# Altium integrated library Lattice FPGA XP2.IntLib: 160 symbols (part 26 of 34)
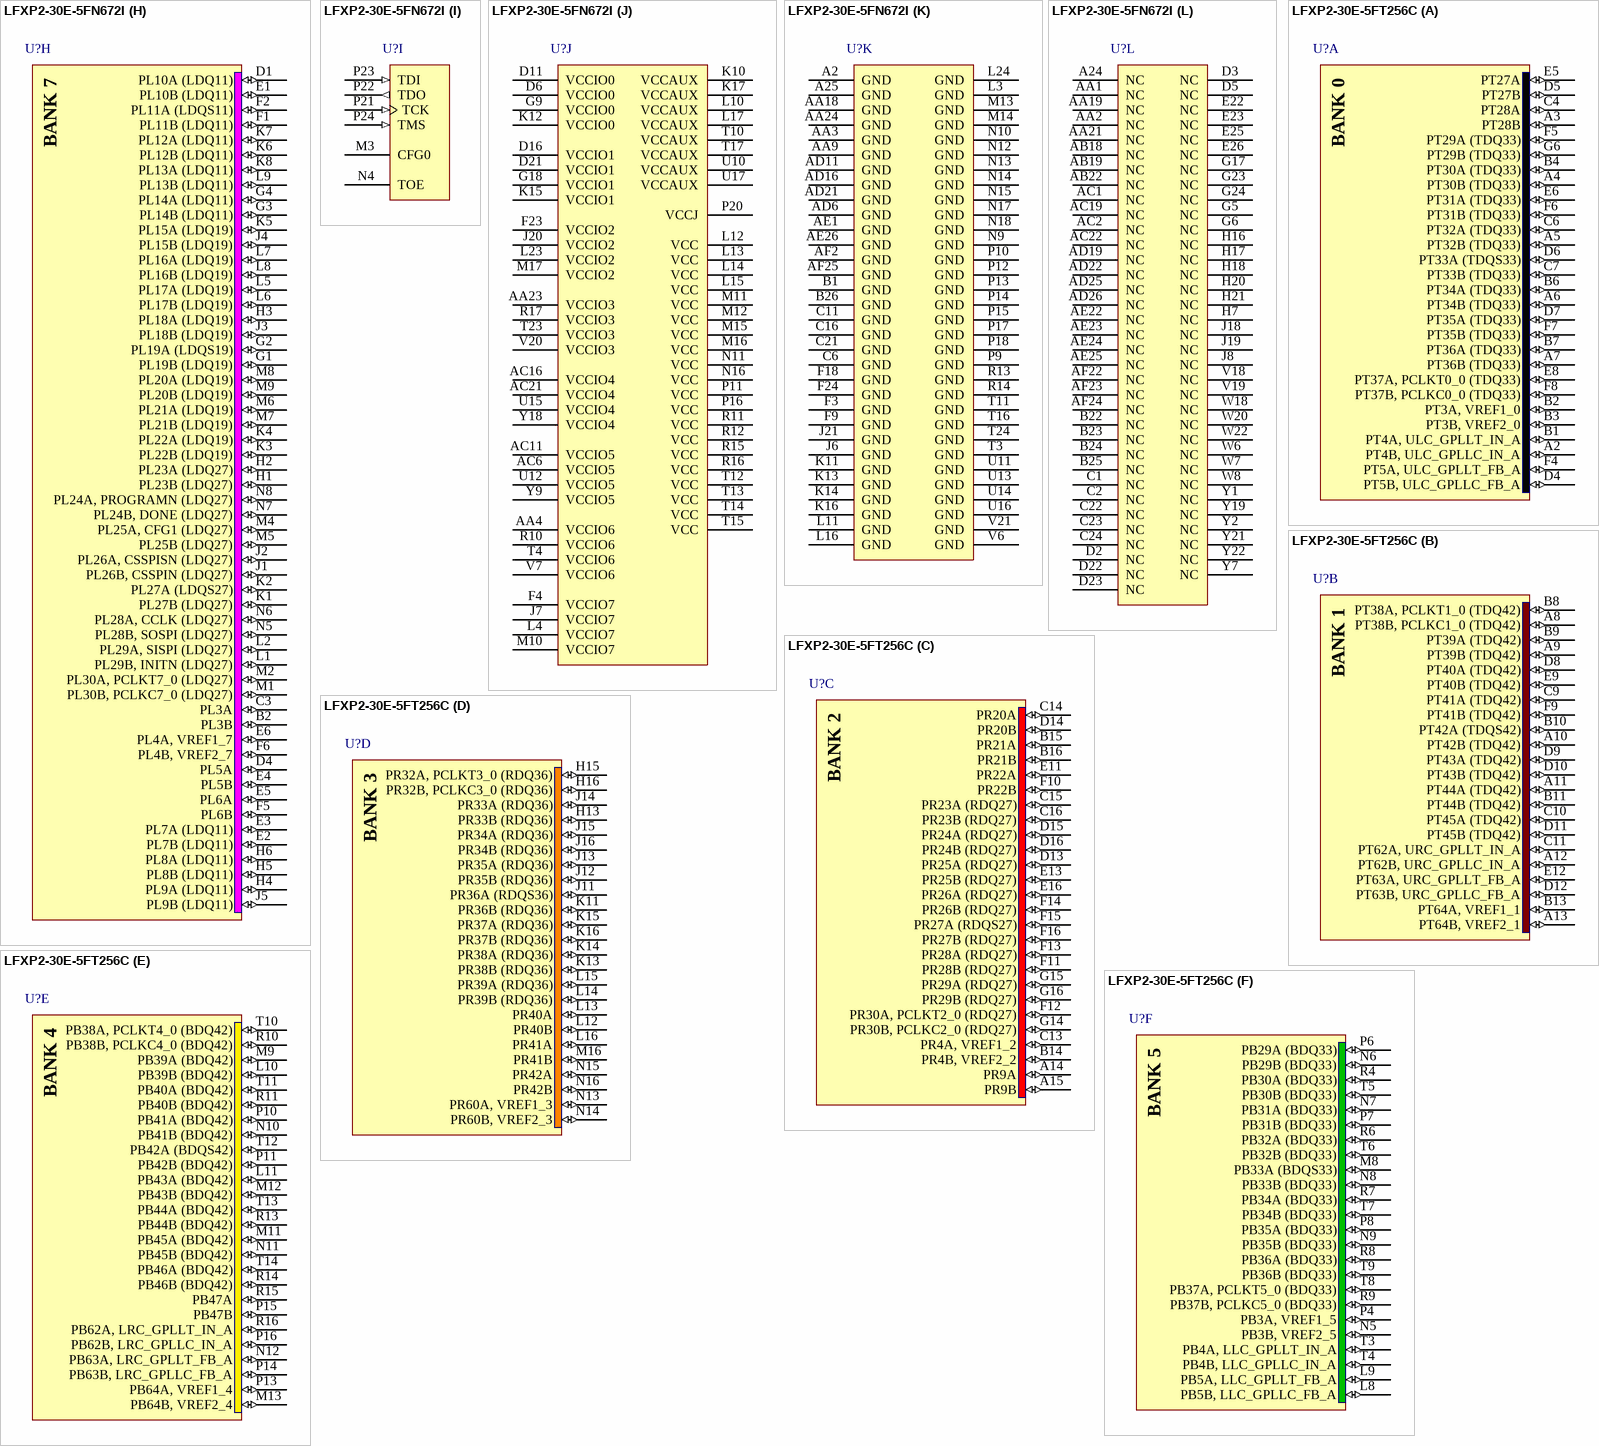
[diagram p187: symbols LFXP2-30E-5FN672I to LFXP2-30E-5FT256C]

## LFXP2-30E-5FN672I
designator U?
XP2, 1.2V FPGA, 472 I/Os, 29K LUTs, 672-Pin fpBGA, Speed Grade 5, Industrial Grade, Pb-Free; Published: 18-Jun-2008; DatasheetVersion: ver01.8, Jun-2008; PackageVersion: ver01.6 Apr-2008; PackageReference: fpBGA672; Publisher: Altium Limited; PackageDescription: 672-Ball Fine Pitch Ball Grid Array (fpBGA672); ComponentLink1Description: Manufacturer Link; ComponentLink1URL: http://www.latticesemi.com/products/fpga/xp2/index.cfm; ComponentLink2Description: Datasheet; ComponentLink2URL: http://www.latticesemi.com/documents/DS1009.pdf; ComponentLink3Description: Packaging Specification; ComponentLink3URL: http://www.latticesemi.com/lit/docs/package/pkg.pdf
footprint fpBGA672 (BGA, 672-Leads, Body 27x27mm, Pitch 1mm)
3D model LFXP2-30E-F672 (672-Ball Fine Pitch Ball Grid Array (fpBGA672))
part A pins: A3 PT4B, ULC_GPLLC_IN_A (TDQ6) (io), A4 PT9A (TDQ6) (io), A5 PT9B (TDQ6) (io), A6 PT10B (TDQ6) (io), A7 PT14A (TDQ15) (io), A8 PT17A (TDQ15) (io), A9 PT18A (TDQ15) (io), A10 PT22A (TDQ24) (io), A11 PT25A (TDQ24) (io), A12 PT26A (TDQ24) (io), A13 PT29A (TDQ33) (io), A14 PT33A (TDQS33) (io), B3 PT4A, ULC_GPLLT_IN_A (TDQ6) (io), B4 PT6A (TDQS6) (io), B5 PT6B (TDQ6) (io), B6 PT10A (TDQ6) (io), B7 PT14B (TDQ15) (io), B8 PT17B (TDQ15) (io), B9 PT18B (TDQ15) (io), B10 PT22B (TDQ24) (io), B11 PT25B (TDQ24) (io), B12 PT26B (TDQ24) (io), B13 PT29B (TDQ33) (io), B14 PT33B (TDQ33) (io), C4 PT5A, ULC_GPLLT_FB_A (TDQ6) (io), C5 PT5B, ULC_GPLLC_FB_A (TDQ6) (io), C7 PT7B (TDQ6) (io), C8 PT13A (TDQ15) (io), C9 PT15B (TDQ15) (io), C10 PT21A (TDQ24) (io), C12 PT30A (TDQ33) (io), C13 PT34A (TDQ33) (io), C14 PT37A, PCLKT0_0 (TDQ33) (io), C15 PT37B, PCLKC0_0 (TDQ33) (io), D7 PT7A (TDQ6) (io), D8 PT13B (TDQ15) (io), D9 PT15A (TDQS15) (io), D10 PT21B (TDQ24) (io), D12 PT30B (TDQ33) (io), D13 PT34B (TDQ33) (io), E7 PT11A (TDQ15) (io), E8 PT11B (TDQ15) (io), E9 PT16A (TDQ15) (io), E10 PT16B (TDQ15) (io), E11 PT27B (TDQ24) (io), E12 PT31B (TDQ33) (io), E13 PT35B (TDQ33) (io), F7 PT3A, VREF1_0 (TDQ6) (io), F8 PT8B (TDQ6) (io), F10 PT23B (TDQ24) (io), F11 PT27A (TDQ24) (io), F12 PT31A (TDQ33) (io), F13 PT35A (TDQ33) (io), G7 PT3B, VREF2_0 (TDQ6) (io), G8 PT8A (TDQ6) (io), G10 PT19B (TDQ15) (io), G11 PT23A (TDQ24) (io), G12 PT32A (TDQ33) (io), G13 PT32B (TDQ33) (io), H8 PT12B (TDQ15) (io), H9 PT12A (TDQ15) (io), H10 PT19A (TDQ15) (io), H11 PT24A (TDQS24) (io), H12 PT28A (TDQ24) (io), H13 PT36B (TDQ33) (io), J9 PT20A (TDQ24) (io), J10 PT24B (TDQ24) (io), J11 PT28B (TDQ24) (io), J12 PT36A (TDQ33) (io), K9 PT20B (TDQ24) (io)
part B pins: A15 PT38A, PCLKT1_0 (TDQ42) (io), A16 PT41A (TDQ42) (io), A17 PT42A (TDQS42) (io), A18 PT45A (TDQ42) (io), A19 PT46A (TDQ42) (io), A20 PT53A (TDQ51) (io), A21 PT58A (TDQ60) (io), A22 PT61A (TDQ60) (io), A23 PT61B (TDQ60) (io), B15 PT38B, PCLKC1_0 (TDQ42) (io), B16 PT41B (TDQ42) (io), B17 PT42B (TDQ42) (io), B18 PT45B (TDQ42) (io), B19 PT46B (TDQ42) (io), B20 PT53B (TDQ51) (io), B21 PT58B (TDQ60) (io), C17 PT47B (TDQ51) (io), C18 PT49A (TDQ51) (io), C19 PT50A (TDQ51) (io), C20 PT54A (TDQ51) (io), C25 PT63A, URC_GPLLT_FB_A (TDQ60) (io), C26 PT63B, URC_GPLLC_FB_A (TDQ60) (io), D14 PT39B (TDQ42) (io), D15 PT43B (TDQ42) (io), D17 PT47A (TDQ51) (io), D18 PT49B (TDQ51) (io), D19 PT50B (TDQ51) (io), D20 PT54B (TDQ51) (io), E14 PT43A (TDQ42) (io), E15 PT48A (TDQ51) (io), E16 PT51B (TDQ51) (io), E17 PT55B (TDQ51) (io), E18 PT55A (TDQ51) (io), E19 PT57A (TDQ60) (io), E20 PT59B (TDQ60) (io), E21 PT59A (TDQ60) (io), F14 PT39A (TDQ42) (io), F15 PT48B (TDQ51) (io), F16 PT51A (TDQS51) (io), F17 PT56B (TDQ60) (io), F19 PT57B (TDQ60) (io), F20 PT62A, URC_GPLLT_IN_A (TDQ60) (io), G14 PT44A (TDQ42) (io), G15 PT44B (TDQ42) (io), G16 PT56A (TDQ60) (io), G19 PT62B, URC_GPLLC_IN_A (TDQ60) (io), G20 PT64B, VREF2_1 (TDQ60) (io), H14 PT40B (TDQ42) (io), H15 PT52B (TDQ51) (io), H19 PT64A, VREF1_1 (TDQ60) (io), J13 PT40A (TDQ42) (io), J14 PT52A (TDQ51) (io), J15 PT60A (TDQS60) (io), J16 PT60B (TDQ60) (io)
part C pins: D24 PR3A (io), D25 PR6A (io), D26 PR6B (io), E24 PR3B (io), F21 PR5B (io), F22 PR4B, VREF2_2 (io), F25 PR7A (RDQ11) (io), F26 PR7B (RDQ11) (io), G21 PR4A, VREF1_2 (io), G22 PR5A (io), G25 PR10B (RDQ11) (io), G26 PR10A (RDQ11) (io), H22 PR8A (RDQ11) (io), H23 PR9B (RDQ11) (io), H24 PR9A (RDQ11) (io), H25 PR14B (RDQ11) (io), H26 PR14A (RDQ11) (io), J17 PR16A (RDQ19) (io), J22 PR8B (RDQ11) (io), J23 PR11B (RDQ11) (io), J24 PR11A (RDQS11) (io), J25 PR18B (RDQ19) (io), J26 PR18A (RDQ19) (io), K18 PR16B (RDQ19) (io), K19 PR12B (RDQ11) (io), K20 PR12A (RDQ11) (io), K21 PR13B (RDQ11) (io), K22 PR13A (RDQ11) (io), K23 PR15B (RDQ19) (io), K24 PR15A (RDQ19) (io), K25 PR19B (RDQ19) (io), K26 PR19A (RDQS19) (io), L18 PR24A (RDQ27) (io), L19 PR20B (RDQ19) (io), L20 PR20A (RDQ19) (io), L21 PR17B (RDQ19) (io), L22 PR17A (RDQ19) (io), L25 PR22B (RDQ19) (io), L26 PR22A (RDQ19) (io), M18 PR25B (RDQ27) (io), M19 PR24B (RDQ27) (io), M20 PR25A (RDQ27) (io), M21 PR21B (RDQ19) (io), M22 PR21A (RDQ19) (io), M23 PR23B (RDQ27) (io), M24 PR23A (RDQ27) (io), M25 PR26B (RDQ27) (io), M26 PR26A (RDQ27) (io), N19 PR29B (RDQ27) (io), N20 PR29A (RDQ27) (io), N21 PR28A (RDQ27) (io), N22 PR28B (RDQ27) (io), N23 PR27B (RDQ27) (io), N24 PR27A (RDQS27) (io), N25 PR30B, PCLKC2_0 (RDQ27) (io), N26 PR30A, PCLKT2_0 (RDQ27) (io)
part D pins: AA22 PR59A (io), AA25 PR49B (RDQ53) (io), AA26 PR49A (RDQ53) (io), AB21 PR59B (io), AB23 PR56B (RDQ53) (io), AB24 PR56A (RDQ53) (io), AB25 PR52B (RDQ53) (io), AB26 PR52A (RDQ53) (io), AC23 PR57B (io), AC24 PR57A (io), AC25 PR53B (RDQ53) (io), AC26 PR53A (RDQS53) (io), AD23 PR60B, VREF2_3 (io), AD24 PR60A, VREF1_3 (io), P19 PR33A (RDQ36) (io), P25 PR32B, PCLKC3_0 (RDQ36) (io), P26 PR32A, PCLKT3_0 (RDQ36) (io), R18 PR33B (RDQ36) (io), R19 PR37A (RDQ36) (io), R20 PR37B (RDQ36) (io), R21 PR34B (RDQ36) (io), R22 PR34A (RDQ36) (io), R23 PR36B (RDQ36) (io), R24 PR36A (RDQS36) (io), R25 PR35B (RDQ36) (io), R26 PR35A (RDQ36) (io), T18 PR41A (RDQ44) (io), T19 PR41B (RDQ44) (io), T20 PR45B (RDQ44) (io), T21 PR45A (RDQ44) (io), T22 PR38B (RDQ36) (io), T25 PR39B (RDQ36) (io), T26 PR39A (RDQ36) (io), U18 PR50A (RDQ53) (io), U19 PR50B (RDQ53) (io), U20 PR54B (RDQ53) (io), U21 PR54A (RDQ53) (io), U22 PR38A (RDQ36) (io), U23 PR42B (RDQ44) (io), U24 PR42A (RDQ44) (io), U25 PR40B (RDQ44) (io), U26 PR40A (RDQ44) (io), V22 PR58A (io), V23 PR46B (RDQ44) (io), V24 PR46A (RDQ44) (io), V25 PR43B (RDQ44) (io), V26 PR43A (RDQ44) (io), W21 PR58B (io), W23 PR51B (RDQ53) (io), W24 PR51A (RDQ53) (io), W25 PR44B (RDQ44) (io), W26 PR44A (RDQS44) (io), Y23 PR55B (RDQ53) (io), Y24 PR55A (RDQ53) (io), Y25 PR47B (RDQ44) (io), Y26 PR47A (RDQ44) (io)
part E pins: AA14 PB39A (BDQ42) (io), AA15 PB44B (BDQ42) (io), AA16 PB47A (BDQ51) (io), AA17 PB59A (BDQ60) (io), AA20 PB63B, LRC_GPLLC_FB_A (BDQ60) (io), AB14 PB39B (BDQ42) (io), AB15 PB44A (BDQ42) (io), AB16 PB47B (BDQ51) (io), AB17 PB59B (BDQ60) (io), AB20 PB63A, LRC_GPLLT_FB_A (BDQ60) (io), AC15 PB43A (BDQ42) (io), AC17 PB51A (BDQS51) (io), AC18 PB55A (BDQ51) (io), AC20 PB62B, LRC_GPLLC_IN_A (BDQ60) (io), AD15 PB43B (BDQ42) (io), AD17 PB51B (BDQ51) (io), AD18 PB55B (BDQ51) (io), AD20 PB62A, LRC_GPLLT_IN_A (BDQ60) (io), AE10 PB38A, PCLKT4_0 (BDQ42) (io), AE11 PB41A (BDQ42) (io), AE12 PB42A (BDQS42) (io), AE13 PB45A (BDQ42) (io), AE14 PB46A (BDQ42) (io), AE15 PB49A (BDQ51) (io), AE16 PB50A (BDQ51) (io), AE17 PB53A (BDQ51) (io), AE18 PB54A (BDQ51) (io), AE19 PB57A (BDQ60) (io), AE20 PB58A (BDQ60) (io), AE21 PB61B (BDQ60) (io), AF10 PB38B, PCLKC4_0 (BDQ42) (io), AF11 PB41B (BDQ42) (io), AF12 PB42B (BDQ42) (io), AF13 PB45B (BDQ42) (io), AF14 PB46B (BDQ42) (io), AF15 PB49B (BDQ51) (io), AF16 PB50B (BDQ51) (io), AF17 PB53B (BDQ51) (io), AF18 PB54B (BDQ51) (io), AF19 PB57B (BDQ60) (io), AF20 PB58B (BDQ60) (io), AF21 PB61A (BDQ60) (io), V15 PB40A (BDQ42) (io), V16 PB52A (BDQ51) (io), V17 PB60A (BDQS60) (io), W15 PB40B (BDQ42) (io), W16 PB52B (BDQ51) (io), W17 PB60B (BDQ60) (io), W19 PB64A, VREF1_4 (BDQ60) (io), Y14 PB48A (BDQ51) (io), Y15 PB48B (BDQ51) (io), Y16 PB56A (BDQ60) (io), Y17 PB56B (BDQ60) (io), Y20 PB64B, VREF2_4 (BDQ60) (io)
part F pins: AA7 PB5A, LLC_GPLLT_FB_A (BDQ6) (io), AA8 PB3A, VREF1_5 (BDQ6) (io), AA10 PB15B (BDQ15) (io), AA11 PB20B (BDQ24) (io), AA12 PB23A (BDQ24) (io), AA13 PB36B (BDQ33) (io), AB3 PB4A, LLC_GPLLT_IN_A (BDQ6) (io), AB4 PB4B, LLC_GPLLC_IN_A (BDQ6) (io), AB5 PB9A (BDQ6) (io), AB6 PB7B (BDQ6) (io), AB7 PB7A (BDQ6) (io), AB8 PB11A (BDQ15) (io), AB9 PB18A (BDQ15) (io), AB10 PB18B (BDQ15) (io), AB11 PB19A (BDQ15) (io), AB12 PB23B (BDQ24) (io), AB13 PB36A (BDQ33) (io), AC3 PB6A (BDQS6) (io), AC4 PB6B (BDQ6) (io), AC5 PB9B (BDQ6) (io), AC7 PB11B (BDQ15) (io), AC8 PB22A (BDQ24) (io), AC9 PB22B (BDQ24) (io), AC10 PB19B (BDQ15) (io), AC12 PB27A (BDQ24) (io), AC13 PB31A (BDQ33) (io), AC14 PB35A (BDQ33) (io), AD1 PB10A (BDQ6) (io), AD2 PB10B (BDQ6) (io), AD3 PB14A (BDQ15) (io), AD4 PB13A (BDQ15) (io), AD5 PB13B (BDQ15) (io), AD7 PB29B (BDQ33) (io), AD8 PB29A (BDQ33) (io), AD9 PB33B (BDQ33) (io), AD10 PB33A (BDQS33) (io), AD12 PB27B (BDQ24) (io), AD13 PB31B (BDQ33) (io), AD14 PB35B (BDQ33) (io), AE2 PB14B (BDQ15) (io), AE3 PB17A (BDQ15) (io), AE4 PB21A (BDQ24) (io), AE5 PB21B (BDQ24) (io), AE6 PB26A (BDQ24) (io), AE7 PB30A (BDQ33) (io), AE8 PB34A (BDQ33) (io), AE9 PB37A, PCLKT5_0 (BDQ33) (io), AF3 PB17B (BDQ15) (io), AF4 PB25A (BDQ24) (io), AF5 PB25B (BDQ24) (io), AF6 PB26B (BDQ24) (io), AF7 PB30B (BDQ33) (io), AF8 PB34B (BDQ33) (io), AF9 PB37B, PCLKC5_0 (BDQ33) (io), V10 PB8A (BDQ6) (io), V11 PB12A (BDQ15) (io), V12 PB16A (BDQ15) (io), V13 PB24A (BDQS24) (io), V14 PB32A (BDQ33) (io), W9 PB5B, LLC_GPLLC_FB_A (BDQ6) (io), W10 PB8B (BDQ6) (io), W11 PB12B (BDQ15) (io), W12 PB16B (BDQ15) (io), W13 PB24B (BDQ24) (io), W14 PB32B (BDQ33) (io), Y8 PB3B, VREF2_5 (BDQ6) (io), Y10 PB15A (BDQS15) (io), Y11 PB20A (BDQ24) (io), Y12 PB28A (BDQ24) (io), Y13 PB28B (BDQ24) (io)
part G pins: AA5 PL58A (io), AA6 PL59A (io), AB1 PL60A, VREF1_6 (io), AB2 PL60B, VREF2_6 (io), N1 PL32B, PCLKC6_0 (LDQ36) (io), N2 PL32A, PCLKT6_0 (LDQ36) (io), N3 PL35A (LDQ36) (io), P1 PL36B (LDQ36) (io), P2 PL36A (LDQS36) (io), P3 PL35B (LDQ36) (io), P4 PL38A (LDQ36) (io), P5 PL34A (LDQ36) (io), P6 PL34B (LDQ36) (io), P7 PL33B (LDQ36) (io), P8 PL33A (LDQ36) (io), R1 PL40B (LDQ44) (io), R2 PL40A (LDQ44) (io), R3 PL39B (LDQ36) (io), R4 PL39A (LDQ36) (io), R5 PL38B (LDQ36) (io), R6 PL37A (LDQ36) (io), R7 PL37B (LDQ36) (io), R8 PL41B (LDQ44) (io), R9 PL41A (LDQ44) (io), T1 PL43B (LDQ44) (io), T2 PL43A (LDQ44) (io), T5 PL42A (LDQ44) (io), T6 PL42B (LDQ44) (io), T7 PL54B (LDQ53) (io), T8 PL45B (LDQ44) (io), T9 PL45A (LDQ44) (io), U1 PL47B (LDQ44) (io), U2 PL47A (LDQ44) (io), U3 PL44B (LDQ44) (io), U4 PL44A (LDQS44) (io), U5 PL46A (LDQ44) (io), U6 PL46B (LDQ44) (io), U7 PL54A (LDQ53) (io), U8 PL50B (LDQ53) (io), U9 PL50A (LDQ53) (io), V1 PL52B (LDQ53) (io), V2 PL52A (LDQ53) (io), V3 PL49B (LDQ53) (io), V4 PL49A (LDQ53) (io), V5 PL51B (LDQ53) (io), V8 PL55A (LDQ53) (io), V9 PL55B (LDQ53) (io), W1 PL56B (LDQ53) (io), W2 PL56A (LDQ53) (io), W3 PL53B (LDQ53) (io), W4 PL53A (LDQS53) (io), W5 PL51A (LDQ53) (io), Y3 PL57B (io), Y4 PL57A (io), Y5 PL58B (io), Y6 PL59B (io)
part H pins: B2 PL3B (io), C3 PL3A (io), D1 PL10A (LDQ11) (io), D4 PL5A (io), E1 PL10B (LDQ11) (io), E2 PL7B (LDQ11) (io), E3 PL7A (LDQ11) (io), E4 PL5B (io), E5 PL6A (io), E6 PL4A, VREF1_7 (io), F1 PL11B (LDQ11) (io), F2 PL11A (LDQS11) (io), F5 PL6B (io), F6 PL4B, VREF2_7 (io), G1 PL19B (LDQ19) (io), G2 PL19A (LDQS19) (io), G3 PL14B (LDQ11) (io), G4 PL14A (LDQ11) (io), H1 PL23B (LDQ27) (io), H2 PL23A (LDQ27) (io), H3 PL18A (LDQ19) (io), H4 PL9A (LDQ11) (io), H5 PL8B (LDQ11) (io), H6 PL8A (LDQ11) (io), J1 PL26B, CSSPIN (LDQ27) (io), J2 PL26A, CSSPISN (LDQ27) (io), J3 PL18B (LDQ19) (io), J4 PL15B (LDQ19) (io), J5 PL9B (LDQ11) (io), K1 PL27B (LDQ27) (io), K2 PL27A (LDQS27) (io), K3 PL22B (LDQ19) (io), K4 PL22A (LDQ19) (io), K5 PL15A (LDQ19) (io), K6 PL12B (LDQ11) (io), K7 PL12A (LDQ11) (io), K8 PL13A (LDQ11) (io), L1 PL29B, INITN (LDQ27) (io), L2 PL29A, SISPI (LDQ27) (io), L5 PL17A (LDQ19) (io), L6 PL17B (LDQ19) (io), L7 PL16A (LDQ19) (io), L8 PL16B (LDQ19) (io), L9 PL13B (LDQ11) (io), M1 PL30B, PCLKC7_0 (LDQ27) (io), M2 PL30A, PCLKT7_0 (LDQ27) (io), M4 PL25A, CFG1 (LDQ27) (io), M5 PL25B (LDQ27) (io), M6 PL21A (LDQ19) (io), M7 PL21B (LDQ19) (io), M8 PL20A (LDQ19) (io), M9 PL20B (LDQ19) (io), N5 PL28B, SOSPI (LDQ27) (io), N6 PL28A, CCLK (LDQ27) (io), N7 PL24B, DONE (LDQ27) (io), N8 PL24A, PROGRAMN (LDQ27) (io)
part I pins: M3 CFG0, N4 TOE, P21 TCK (in), P22 TDO (out), P23 TDI (in), P24 TMS (in)
part J pins: AA4 VCCIO6 (power), AA23 VCCIO3 (power), AC6 VCCIO5 (power), AC11 VCCIO5 (power), AC16 VCCIO4 (power), AC21 VCCIO4 (power), D6 VCCIO0 (power), D11 VCCIO0 (power), D16 VCCIO1 (power), D21 VCCIO1 (power), F4 VCCIO7 (power), F23 VCCIO2 (power), G9 VCCIO0 (power), G18 VCCIO1 (power), J7 VCCIO7 (power), J20 VCCIO2 (power), K10 VCCAUX (power), K12 VCCIO0 (power), K15 VCCIO1 (power), K17 VCCAUX (power), L4 VCCIO7 (power), L10 VCCAUX (power), L12 VCC (power), L13 VCC (power), L14 VCC (power), L15 VCC (power), L17 VCCAUX (power), L23 VCCIO2 (power), M10 VCCIO7 (power), M11 VCC (power), M12 VCC (power), M15 VCC (power), M16 VCC (power), M17 VCCIO2 (power), N11 VCC (power), N16 VCC (power), P11 VCC (power), P16 VCC (power), P20 VCCJ (power), R10 VCCIO6 (power), R11 VCC (power), R12 VCC (power), R15 VCC (power), R16 VCC (power), R17 VCCIO3 (power), T4 VCCIO6 (power), T10 VCCAUX (power), T12 VCC (power), T13 VCC (power), T14 VCC (power), T15 VCC (power), T17 VCCAUX (power), T23 VCCIO3 (power), U10 VCCAUX (power), U12 VCCIO5 (power), U15 VCCIO4 (power), U17 VCCAUX (power), V7 VCCIO6 (power), V20 VCCIO3 (power), Y9 VCCIO5 (power), Y18 VCCIO4 (power)
part K pins: A2 GND (power), A25 GND (power), AA3 GND (power), AA9 GND (power), AA18 GND (power), AA24 GND (power), AD6 GND (power), AD11 GND (power), AD16 GND (power), AD21 GND (power), AE1 GND (power), AE26 GND (power), AF2 GND (power), AF25 GND (power), B1 GND (power), B26 GND (power), C6 GND (power), C11 GND (power), C16 GND (power), C21 GND (power), F3 GND (power), F9 GND (power), F18 GND (power), F24 GND (power), J6 GND (power), J21 GND (power), K11 GND (power), K13 GND (power), K14 GND (power), K16 GND (power), L3 GND (power), L11 GND (power), L16 GND (power), L24 GND (power), M13 GND (power), M14 GND (power), N9 GND (power), N10 GND (power), N12 GND (power), N13 GND (power), N14 GND (power), N15 GND (power), N17 GND (power), N18 GND (power), P9 GND (power), P10 GND (power), P12 GND (power), P13 GND (power), P14 GND (power), P15 GND (power), P17 GND (power), P18 GND (power), R13 GND (power), R14 GND (power), T3 GND (power), T11 GND (power), T16 GND (power), T24 GND (power), U11 GND (power), U13 GND (power), U14 GND (power), U16 GND (power), V6 GND (power), V21 GND (power)
part L pins: A24 NC, AA1 NC, AA2 NC, AA19 NC, AA21 NC, AB18 NC, AB19 NC, AB22 NC, AC1 NC, AC2 NC, AC19 NC, AC22 NC, AD19 NC, AD22 NC, AD25 NC, AD26 NC, AE22 NC, AE23 NC, AE24 NC, AE25 NC, AF22 NC, AF23 NC, AF24 NC, B22 NC, B23 NC, B24 NC, B25 NC, C1 NC, C2 NC, C22 NC, C23 NC, C24 NC, D2 NC, D3 NC, D5 NC, D22 NC, D23 NC, E22 NC, E23 NC, E25 NC, E26 NC, G5 NC, G6 NC, G17 NC, G23 NC, G24 NC, H7 NC, H16 NC, H17 NC, H18 NC, H20 NC, H21 NC, J8 NC, J18 NC, J19 NC, V18 NC, V19 NC, W6 NC, W7 NC, W8 NC, W18 NC, W20 NC, W22 NC, Y1 NC, Y2 NC, Y7 NC, Y19 NC, Y21 NC, Y22 NC
part A text: BANK 0
part B text: BANK 1
part C text: BANK 2
part D text: BANK 3
part E text: BANK 4
part F text: BANK 5
part G text: BANK 6
part H text: BANK 7

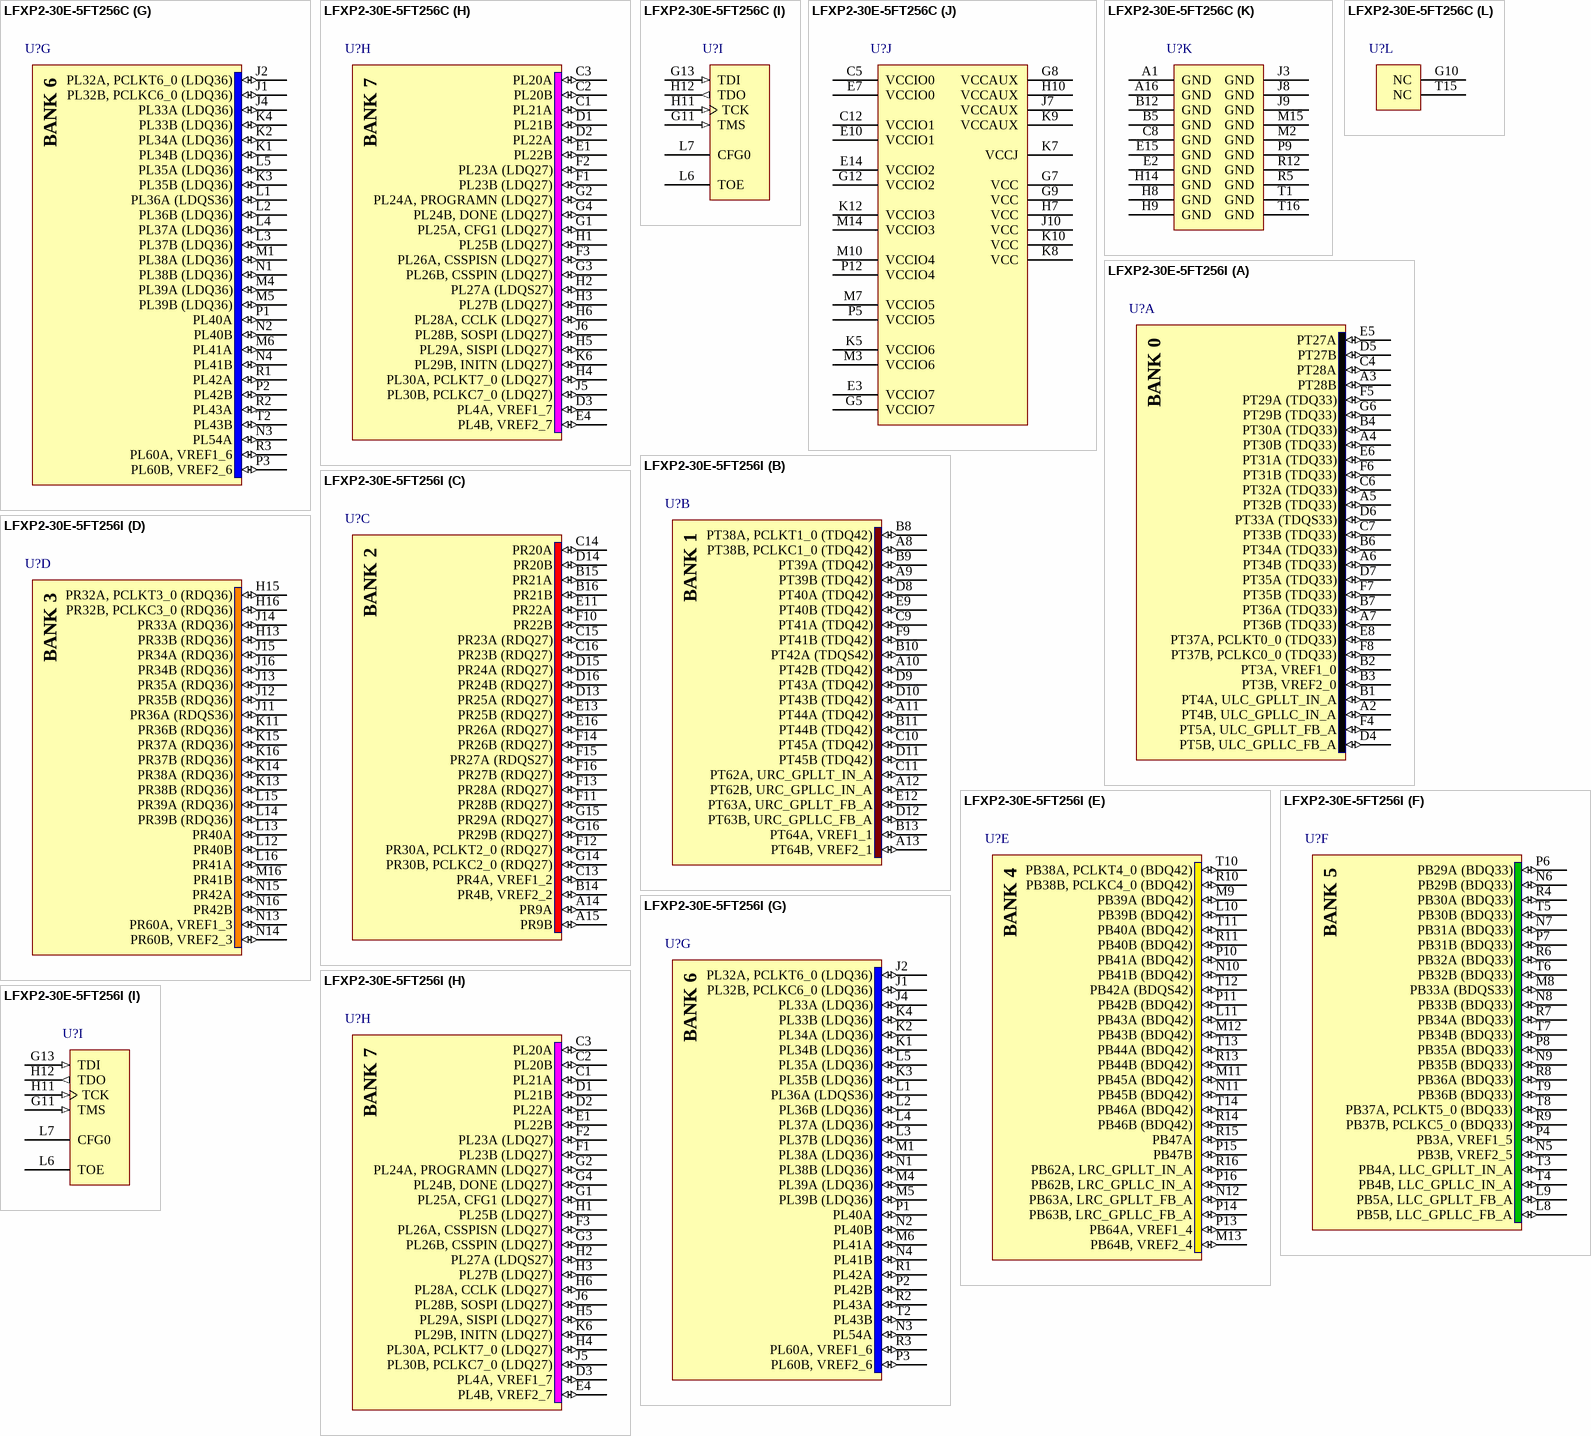
[diagram p107: symbols LFXP2-30E-5FT256C to LFXP2-30E-5FT256I]

## LFXP2-30E-5FT256C
designator U?
XP2, 1.2V FPGA, 201 I/Os, 29K LUTs, 256-Pin ftBGA, Speed Grade 5, Commercial Grade; Published: 18-Jun-2008; DatasheetVersion: ver01.8, Jun-2008; PackageVersion: ver01.6 Apr-2008; PackageReference: ftBGA256; Publisher: Altium Limited; PackageDescription: 256-Ball Fine Thin Ball Grid Array (ftBGA256); ComponentLink1Description: Manufacturer Link; ComponentLink1URL: http://www.latticesemi.com/products/fpga/xp2/index.cfm; ComponentLink2Description: Datasheet; ComponentLink2URL: http://www.latticesemi.com/documents/DS1009.pdf; ComponentLink3Description: Packaging Specification; ComponentLink3URL: http://www.latticesemi.com/lit/docs/package/pkg.pdf
footprint ftBGA256 (BGA, 256-Leads, Body 17x17mm, Pitch 1mm)
3D model LFXP2-30E-FT256 (256-Ball Fine Thin Ball Grid Array (ftBGA256))
part A pins: A2 PT4B, ULC_GPLLC_IN_A (io), A3 PT28B (io), A4 PT30B (TDQ33) (io), A5 PT32B (TDQ33) (io), A6 PT34B (TDQ33) (io), A7 PT36B (TDQ33) (io), B1 PT4A, ULC_GPLLT_IN_A (io), B2 PT3A, VREF1_0 (io), B3 PT3B, VREF2_0 (io), B4 PT30A (TDQ33) (io), B6 PT34A (TDQ33) (io), B7 PT36A (TDQ33) (io), C4 PT28A (io), C6 PT32A (TDQ33) (io), C7 PT33B (TDQ33) (io), D4 PT5B, ULC_GPLLC_FB_A (io), D5 PT27B (io), D6 PT33A (TDQS33) (io), D7 PT35A (TDQ33) (io), E5 PT27A (io), E6 PT31A (TDQ33) (io), E8 PT37A, PCLKT0_0 (TDQ33) (io), F4 PT5A, ULC_GPLLT_FB_A (io), F5 PT29A (TDQ33) (io), F6 PT31B (TDQ33) (io), F7 PT35B (TDQ33) (io), F8 PT37B, PCLKC0_0 (TDQ33) (io), G6 PT29B (TDQ33) (io)
part B pins: A8 PT38B, PCLKC1_0 (TDQ42) (io), A9 PT39B (TDQ42) (io), A10 PT42B (TDQ42) (io), A11 PT44A (TDQ42) (io), A12 PT62B, URC_GPLLC_IN_A (io), A13 PT64B, VREF2_1 (io), B8 PT38A, PCLKT1_0 (TDQ42) (io), B9 PT39A (TDQ42) (io), B10 PT42A (TDQS42) (io), B11 PT44B (TDQ42) (io), B13 PT64A, VREF1_1 (io), C9 PT41A (TDQ42) (io), C10 PT45A (TDQ42) (io), C11 PT62A, URC_GPLLT_IN_A (io), D8 PT40A (TDQ42) (io), D9 PT43A (TDQ42) (io), D10 PT43B (TDQ42) (io), D11 PT45B (TDQ42) (io), D12 PT63B, URC_GPLLC_FB_A (io), E9 PT40B (TDQ42) (io), E12 PT63A, URC_GPLLT_FB_A (io), F9 PT41B (TDQ42) (io)
part C pins: A14 PR9A (io), A15 PR9B (io), B14 PR4B, VREF2_2 (io), B15 PR21A (io), B16 PR21B (io), C13 PR4A, VREF1_2 (io), C14 PR20A (io), C15 PR23A (RDQ27) (io), C16 PR23B (RDQ27) (io), D13 PR25A (RDQ27) (io), D14 PR20B (io), D15 PR24A (RDQ27) (io), D16 PR24B (RDQ27) (io), E11 PR22A (io), E13 PR25B (RDQ27) (io), E16 PR26A (RDQ27) (io), F10 PR22B (io), F11 PR28B (RDQ27) (io), F12 PR30A, PCLKT2_0 (RDQ27) (io), F13 PR28A (RDQ27) (io), F14 PR26B (RDQ27) (io), F15 PR27A (RDQS27) (io), F16 PR27B (RDQ27) (io), G14 PR30B, PCLKC2_0 (RDQ27) (io), G15 PR29A (RDQ27) (io), G16 PR29B (RDQ27) (io)
part D pins: H13 PR33B (RDQ36) (io), H15 PR32A, PCLKT3_0 (RDQ36) (io), H16 PR32B, PCLKC3_0 (RDQ36) (io), J11 PR36A (RDQS36) (io), J12 PR35B (RDQ36) (io), J13 PR35A (RDQ36) (io), J14 PR33A (RDQ36) (io), J15 PR34A (RDQ36) (io), J16 PR34B (RDQ36) (io), K11 PR36B (RDQ36) (io), K13 PR38B (RDQ36) (io), K14 PR38A (RDQ36) (io), K15 PR37A (RDQ36) (io), K16 PR37B (RDQ36) (io), L12 PR40B (io), L13 PR40A (io), L14 PR39B (RDQ36) (io), L15 PR39A (RDQ36) (io), L16 PR41A (io), M16 PR41B (io), N13 PR60A, VREF1_3 (io), N14 PR60B, VREF2_3 (io), N15 PR42A (io), N16 PR42B (io)
part E pins: L10 PB39B (BDQ42) (io), L11 PB43A (BDQ42) (io), M9 PB39A (BDQ42) (io), M11 PB45A (BDQ42) (io), M12 PB43B (BDQ42) (io), M13 PB64B, VREF2_4 (io), N10 PB41B (BDQ42) (io), N11 PB45B (BDQ42) (io), N12 PB63A, LRC_GPLLT_FB_A (io), P10 PB41A (BDQ42) (io), P11 PB42B (BDQ42) (io), P13 PB64A, VREF1_4 (io), P14 PB63B, LRC_GPLLC_FB_A (io), P15 PB47B (io), P16 PB62B, LRC_GPLLC_IN_A (io), R10 PB38B, PCLKC4_0 (BDQ42) (io), R11 PB40B (BDQ42) (io), R13 PB44B (BDQ42) (io), R14 PB46B (BDQ42) (io), R15 PB47A (io), R16 PB62A, LRC_GPLLT_IN_A (io), T10 PB38A, PCLKT4_0 (BDQ42) (io), T11 PB40A (BDQ42) (io), T12 PB42A (BDQS42) (io), T13 PB44A (BDQ42) (io), T14 PB46A (BDQ42) (io)
part F pins: L8 PB5B, LLC_GPLLC_FB_A (io), L9 PB5A, LLC_GPLLT_FB_A (io), M8 PB33A (BDQS33) (io), N5 PB3B, VREF2_5 (io), N6 PB29B (BDQ33) (io), N7 PB31A (BDQ33) (io), N8 PB33B (BDQ33) (io), N9 PB35B (BDQ33) (io), P4 PB3A, VREF1_5 (io), P6 PB29A (BDQ33) (io), P7 PB31B (BDQ33) (io), P8 PB35A (BDQ33) (io), R4 PB30A (BDQ33) (io), R6 PB32A (BDQ33) (io), R7 PB34A (BDQ33) (io), R8 PB36A (BDQ33) (io), R9 PB37B, PCLKC5_0 (BDQ33) (io), T3 PB4A, LLC_GPLLT_IN_A (io), T4 PB4B, LLC_GPLLC_IN_A (io), T5 PB30B (BDQ33) (io), T6 PB32B (BDQ33) (io), T7 PB34B (BDQ33) (io), T8 PB37A, PCLKT5_0 (BDQ33) (io), T9 PB36B (BDQ33) (io)
part G pins: J1 PL32B, PCLKC6_0 (LDQ36) (io), J2 PL32A, PCLKT6_0 (LDQ36) (io), J4 PL33A (LDQ36) (io), K1 PL34B (LDQ36) (io), K2 PL34A (LDQ36) (io), K3 PL35B (LDQ36) (io), K4 PL33B (LDQ36) (io), L1 PL36A (LDQS36) (io), L2 PL36B (LDQ36) (io), L3 PL37B (LDQ36) (io), L4 PL37A (LDQ36) (io), L5 PL35A (LDQ36) (io), M1 PL38A (LDQ36) (io), M4 PL39A (LDQ36) (io), M5 PL39B (LDQ36) (io), M6 PL41A (io), N1 PL38B (LDQ36) (io), N2 PL40B (io), N3 PL54A (io), N4 PL41B (io), P1 PL40A (io), P2 PL42B (io), P3 PL60B, VREF2_6 (io), R1 PL42A (io), R2 PL43A (io), R3 PL60A, VREF1_6 (io), T2 PL43B (io)
part H pins: C1 PL21A (io), C2 PL20B (io), C3 PL20A (io), D1 PL21B (io), D2 PL22A (io), D3 PL4A, VREF1_7 (io), E1 PL22B (io), E4 PL4B, VREF2_7 (io), F1 PL23B (LDQ27) (io), F2 PL23A (LDQ27) (io), F3 PL26A, CSSPISN (LDQ27) (io), G1 PL25A, CFG1 (LDQ27) (io), G2 PL24A, PROGRAMN (LDQ27) (io), G3 PL26B, CSSPIN (LDQ27) (io), G4 PL24B, DONE (LDQ27) (io), H1 PL25B (LDQ27) (io), H2 PL27A (LDQS27) (io), H3 PL27B (LDQ27) (io), H4 PL30A, PCLKT7_0 (LDQ27) (io), H5 PL29A, SISPI (LDQ27) (io), H6 PL28A, CCLK (LDQ27) (io), J5 PL30B, PCLKC7_0 (LDQ27) (io), J6 PL28B, SOSPI (LDQ27) (io), K6 PL29B, INITN (LDQ27) (io)
part I pins: G11 TMS (in), G13 TDI (in), H11 TCK (in), H12 TDO (out), L6 TOE, L7 CFG0
part J pins: C5 VCCIO0 (power), C12 VCCIO1 (power), E3 VCCIO7 (power), E7 VCCIO0 (power), E10 VCCIO1 (power), E14 VCCIO2 (power), G5 VCCIO7 (power), G7 VCC (power), G8 VCCAUX (power), G9 VCC (power), G12 VCCIO2 (power), H7 VCC (power), H10 VCCAUX (power), J7 VCCAUX (power), J10 VCC (power), K5 VCCIO6 (power), K7 VCCJ (power), K8 VCC (power), K9 VCCAUX (power), K10 VCC (power), K12 VCCIO3 (power), M3 VCCIO6 (power), M7 VCCIO5 (power), M10 VCCIO4 (power), M14 VCCIO3 (power), P5 VCCIO5 (power), P12 VCCIO4 (power)
part K pins: A1 GND (power), A16 GND (power), B5 GND (power), B12 GND (power), C8 GND (power), E2 GND (power), E15 GND (power), H8 GND (power), H9 GND (power), H14 GND (power), J3 GND (power), J8 GND (power), J9 GND (power), M2 GND (power), M15 GND (power), P9 GND (power), R5 GND (power), R12 GND (power), T1 GND (power), T16 GND (power)
part L pins: G10 NC, T15 NC
part A text: BANK 0
part B text: BANK 1
part C text: BANK 2
part D text: BANK 3
part E text: BANK 4
part F text: BANK 5
part G text: BANK 6
part H text: BANK 7

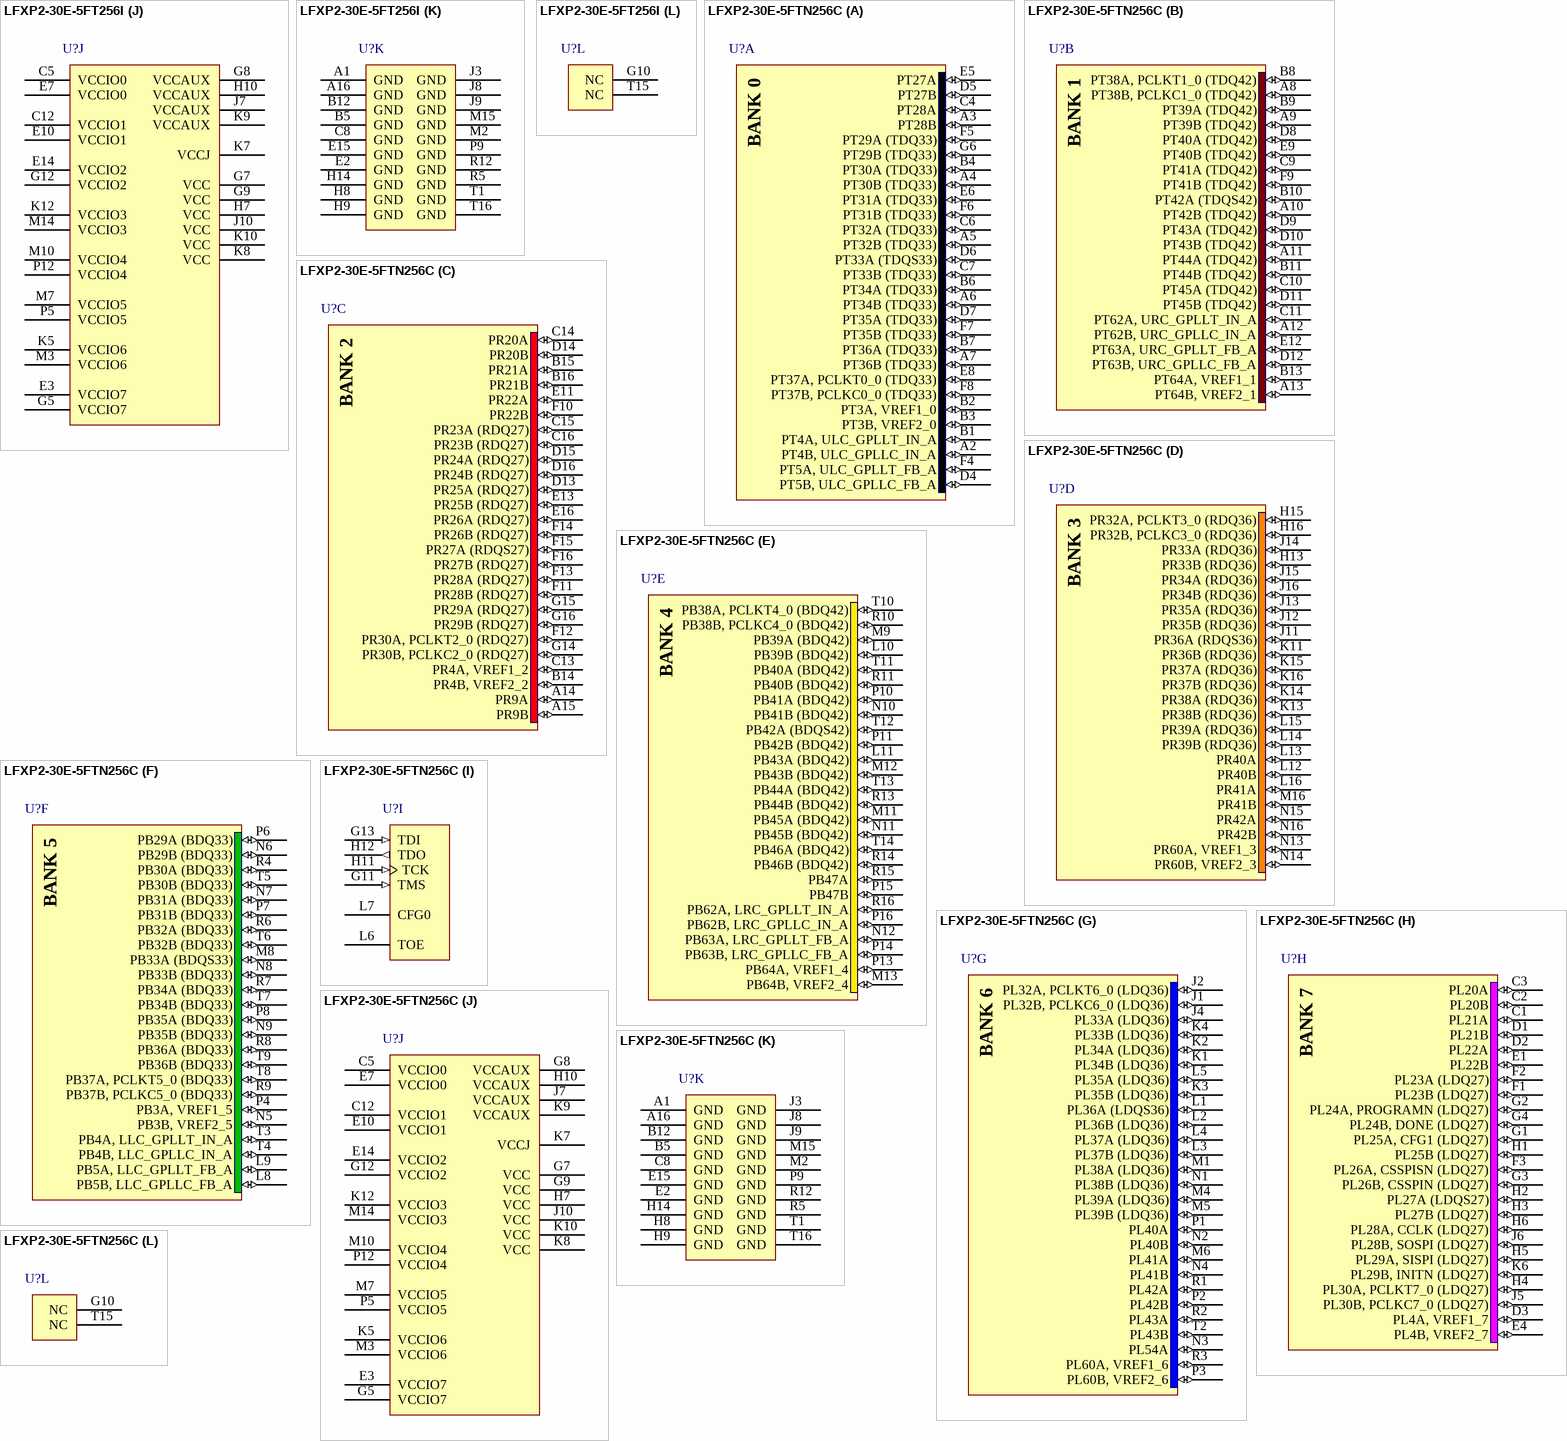
[diagram p108: symbols LFXP2-30E-5FT256I to LFXP2-30E-5FTN256C]

## LFXP2-30E-5FT256I
designator U?
XP2, 1.2V FPGA, 201 I/Os, 29K LUTs, 256-Pin ftBGA, Speed Grade 5, Industrial Grade; Published: 18-Jun-2008; DatasheetVersion: ver01.8, Jun-2008; PackageVersion: ver01.6 Apr-2008; PackageReference: ftBGA256; Publisher: Altium Limited; PackageDescription: 256-Ball Fine Thin Ball Grid Array (ftBGA256); ComponentLink1Description: Manufacturer Link; ComponentLink1URL: http://www.latticesemi.com/products/fpga/xp2/index.cfm; ComponentLink2Description: Datasheet; ComponentLink2URL: http://www.latticesemi.com/documents/DS1009.pdf; ComponentLink3Description: Packaging Specification; ComponentLink3URL: http://www.latticesemi.com/lit/docs/package/pkg.pdf
footprint ftBGA256 (BGA, 256-Leads, Body 17x17mm, Pitch 1mm)
3D model LFXP2-30E-FT256 (256-Ball Fine Thin Ball Grid Array (ftBGA256))
part A pins: A2 PT4B, ULC_GPLLC_IN_A (io), A3 PT28B (io), A4 PT30B (TDQ33) (io), A5 PT32B (TDQ33) (io), A6 PT34B (TDQ33) (io), A7 PT36B (TDQ33) (io), B1 PT4A, ULC_GPLLT_IN_A (io), B2 PT3A, VREF1_0 (io), B3 PT3B, VREF2_0 (io), B4 PT30A (TDQ33) (io), B6 PT34A (TDQ33) (io), B7 PT36A (TDQ33) (io), C4 PT28A (io), C6 PT32A (TDQ33) (io), C7 PT33B (TDQ33) (io), D4 PT5B, ULC_GPLLC_FB_A (io), D5 PT27B (io), D6 PT33A (TDQS33) (io), D7 PT35A (TDQ33) (io), E5 PT27A (io), E6 PT31A (TDQ33) (io), E8 PT37A, PCLKT0_0 (TDQ33) (io), F4 PT5A, ULC_GPLLT_FB_A (io), F5 PT29A (TDQ33) (io), F6 PT31B (TDQ33) (io), F7 PT35B (TDQ33) (io), F8 PT37B, PCLKC0_0 (TDQ33) (io), G6 PT29B (TDQ33) (io)
part B pins: A8 PT38B, PCLKC1_0 (TDQ42) (io), A9 PT39B (TDQ42) (io), A10 PT42B (TDQ42) (io), A11 PT44A (TDQ42) (io), A12 PT62B, URC_GPLLC_IN_A (io), A13 PT64B, VREF2_1 (io), B8 PT38A, PCLKT1_0 (TDQ42) (io), B9 PT39A (TDQ42) (io), B10 PT42A (TDQS42) (io), B11 PT44B (TDQ42) (io), B13 PT64A, VREF1_1 (io), C9 PT41A (TDQ42) (io), C10 PT45A (TDQ42) (io), C11 PT62A, URC_GPLLT_IN_A (io), D8 PT40A (TDQ42) (io), D9 PT43A (TDQ42) (io), D10 PT43B (TDQ42) (io), D11 PT45B (TDQ42) (io), D12 PT63B, URC_GPLLC_FB_A (io), E9 PT40B (TDQ42) (io), E12 PT63A, URC_GPLLT_FB_A (io), F9 PT41B (TDQ42) (io)
part C pins: A14 PR9A (io), A15 PR9B (io), B14 PR4B, VREF2_2 (io), B15 PR21A (io), B16 PR21B (io), C13 PR4A, VREF1_2 (io), C14 PR20A (io), C15 PR23A (RDQ27) (io), C16 PR23B (RDQ27) (io), D13 PR25A (RDQ27) (io), D14 PR20B (io), D15 PR24A (RDQ27) (io), D16 PR24B (RDQ27) (io), E11 PR22A (io), E13 PR25B (RDQ27) (io), E16 PR26A (RDQ27) (io), F10 PR22B (io), F11 PR28B (RDQ27) (io), F12 PR30A, PCLKT2_0 (RDQ27) (io), F13 PR28A (RDQ27) (io), F14 PR26B (RDQ27) (io), F15 PR27A (RDQS27) (io), F16 PR27B (RDQ27) (io), G14 PR30B, PCLKC2_0 (RDQ27) (io), G15 PR29A (RDQ27) (io), G16 PR29B (RDQ27) (io)
part D pins: H13 PR33B (RDQ36) (io), H15 PR32A, PCLKT3_0 (RDQ36) (io), H16 PR32B, PCLKC3_0 (RDQ36) (io), J11 PR36A (RDQS36) (io), J12 PR35B (RDQ36) (io), J13 PR35A (RDQ36) (io), J14 PR33A (RDQ36) (io), J15 PR34A (RDQ36) (io), J16 PR34B (RDQ36) (io), K11 PR36B (RDQ36) (io), K13 PR38B (RDQ36) (io), K14 PR38A (RDQ36) (io), K15 PR37A (RDQ36) (io), K16 PR37B (RDQ36) (io), L12 PR40B (io), L13 PR40A (io), L14 PR39B (RDQ36) (io), L15 PR39A (RDQ36) (io), L16 PR41A (io), M16 PR41B (io), N13 PR60A, VREF1_3 (io), N14 PR60B, VREF2_3 (io), N15 PR42A (io), N16 PR42B (io)
part E pins: L10 PB39B (BDQ42) (io), L11 PB43A (BDQ42) (io), M9 PB39A (BDQ42) (io), M11 PB45A (BDQ42) (io), M12 PB43B (BDQ42) (io), M13 PB64B, VREF2_4 (io), N10 PB41B (BDQ42) (io), N11 PB45B (BDQ42) (io), N12 PB63A, LRC_GPLLT_FB_A (io), P10 PB41A (BDQ42) (io), P11 PB42B (BDQ42) (io), P13 PB64A, VREF1_4 (io), P14 PB63B, LRC_GPLLC_FB_A (io), P15 PB47B (io), P16 PB62B, LRC_GPLLC_IN_A (io), R10 PB38B, PCLKC4_0 (BDQ42) (io), R11 PB40B (BDQ42) (io), R13 PB44B (BDQ42) (io), R14 PB46B (BDQ42) (io), R15 PB47A (io), R16 PB62A, LRC_GPLLT_IN_A (io), T10 PB38A, PCLKT4_0 (BDQ42) (io), T11 PB40A (BDQ42) (io), T12 PB42A (BDQS42) (io), T13 PB44A (BDQ42) (io), T14 PB46A (BDQ42) (io)
part F pins: L8 PB5B, LLC_GPLLC_FB_A (io), L9 PB5A, LLC_GPLLT_FB_A (io), M8 PB33A (BDQS33) (io), N5 PB3B, VREF2_5 (io), N6 PB29B (BDQ33) (io), N7 PB31A (BDQ33) (io), N8 PB33B (BDQ33) (io), N9 PB35B (BDQ33) (io), P4 PB3A, VREF1_5 (io), P6 PB29A (BDQ33) (io), P7 PB31B (BDQ33) (io), P8 PB35A (BDQ33) (io), R4 PB30A (BDQ33) (io), R6 PB32A (BDQ33) (io), R7 PB34A (BDQ33) (io), R8 PB36A (BDQ33) (io), R9 PB37B, PCLKC5_0 (BDQ33) (io), T3 PB4A, LLC_GPLLT_IN_A (io), T4 PB4B, LLC_GPLLC_IN_A (io), T5 PB30B (BDQ33) (io), T6 PB32B (BDQ33) (io), T7 PB34B (BDQ33) (io), T8 PB37A, PCLKT5_0 (BDQ33) (io), T9 PB36B (BDQ33) (io)
part G pins: J1 PL32B, PCLKC6_0 (LDQ36) (io), J2 PL32A, PCLKT6_0 (LDQ36) (io), J4 PL33A (LDQ36) (io), K1 PL34B (LDQ36) (io), K2 PL34A (LDQ36) (io), K3 PL35B (LDQ36) (io), K4 PL33B (LDQ36) (io), L1 PL36A (LDQS36) (io), L2 PL36B (LDQ36) (io), L3 PL37B (LDQ36) (io), L4 PL37A (LDQ36) (io), L5 PL35A (LDQ36) (io), M1 PL38A (LDQ36) (io), M4 PL39A (LDQ36) (io), M5 PL39B (LDQ36) (io), M6 PL41A (io), N1 PL38B (LDQ36) (io), N2 PL40B (io), N3 PL54A (io), N4 PL41B (io), P1 PL40A (io), P2 PL42B (io), P3 PL60B, VREF2_6 (io), R1 PL42A (io), R2 PL43A (io), R3 PL60A, VREF1_6 (io), T2 PL43B (io)
part H pins: C1 PL21A (io), C2 PL20B (io), C3 PL20A (io), D1 PL21B (io), D2 PL22A (io), D3 PL4A, VREF1_7 (io), E1 PL22B (io), E4 PL4B, VREF2_7 (io), F1 PL23B (LDQ27) (io), F2 PL23A (LDQ27) (io), F3 PL26A, CSSPISN (LDQ27) (io), G1 PL25A, CFG1 (LDQ27) (io), G2 PL24A, PROGRAMN (LDQ27) (io), G3 PL26B, CSSPIN (LDQ27) (io), G4 PL24B, DONE (LDQ27) (io), H1 PL25B (LDQ27) (io), H2 PL27A (LDQS27) (io), H3 PL27B (LDQ27) (io), H4 PL30A, PCLKT7_0 (LDQ27) (io), H5 PL29A, SISPI (LDQ27) (io), H6 PL28A, CCLK (LDQ27) (io), J5 PL30B, PCLKC7_0 (LDQ27) (io), J6 PL28B, SOSPI (LDQ27) (io), K6 PL29B, INITN (LDQ27) (io)
part I pins: G11 TMS (in), G13 TDI (in), H11 TCK (in), H12 TDO (out), L6 TOE, L7 CFG0
part J pins: C5 VCCIO0 (power), C12 VCCIO1 (power), E3 VCCIO7 (power), E7 VCCIO0 (power), E10 VCCIO1 (power), E14 VCCIO2 (power), G5 VCCIO7 (power), G7 VCC (power), G8 VCCAUX (power), G9 VCC (power), G12 VCCIO2 (power), H7 VCC (power), H10 VCCAUX (power), J7 VCCAUX (power), J10 VCC (power), K5 VCCIO6 (power), K7 VCCJ (power), K8 VCC (power), K9 VCCAUX (power), K10 VCC (power), K12 VCCIO3 (power), M3 VCCIO6 (power), M7 VCCIO5 (power), M10 VCCIO4 (power), M14 VCCIO3 (power), P5 VCCIO5 (power), P12 VCCIO4 (power)
part K pins: A1 GND (power), A16 GND (power), B5 GND (power), B12 GND (power), C8 GND (power), E2 GND (power), E15 GND (power), H8 GND (power), H9 GND (power), H14 GND (power), J3 GND (power), J8 GND (power), J9 GND (power), M2 GND (power), M15 GND (power), P9 GND (power), R5 GND (power), R12 GND (power), T1 GND (power), T16 GND (power)
part L pins: G10 NC, T15 NC
part A text: BANK 0
part B text: BANK 1
part C text: BANK 2
part D text: BANK 3
part E text: BANK 4
part F text: BANK 5
part G text: BANK 6
part H text: BANK 7

## LFXP2-30E-5FTN256C
designator U?
XP2, 1.2V FPGA, 201 I/Os, 29K LUTs, 256-Pin ftBGA, Speed Grade 5, Commercial Grade, Pb-Free; Published: 18-Jun-2008; DatasheetVersion: ver01.8, Jun-2008; PackageVersion: ver01.6 Apr-2008; PackageReference: ftBGA256; Publisher: Altium Limited; PackageDescription: 256-Ball Fine Thin Ball Grid Array (ftBGA256); ComponentLink1Description: Manufacturer Link; ComponentLink1URL: http://www.latticesemi.com/products/fpga/xp2/index.cfm; ComponentLink2Description: Datasheet; ComponentLink2URL: http://www.latticesemi.com/documents/DS1009.pdf; ComponentLink3Description: Packaging Specification; ComponentLink3URL: http://www.latticesemi.com/lit/docs/package/pkg.pdf
footprint ftBGA256 (BGA, 256-Leads, Body 17x17mm, Pitch 1mm)
3D model LFXP2-30E-FT256 (256-Ball Fine Thin Ball Grid Array (ftBGA256))
part A pins: A2 PT4B, ULC_GPLLC_IN_A (io), A3 PT28B (io), A4 PT30B (TDQ33) (io), A5 PT32B (TDQ33) (io), A6 PT34B (TDQ33) (io), A7 PT36B (TDQ33) (io), B1 PT4A, ULC_GPLLT_IN_A (io), B2 PT3A, VREF1_0 (io), B3 PT3B, VREF2_0 (io), B4 PT30A (TDQ33) (io), B6 PT34A (TDQ33) (io), B7 PT36A (TDQ33) (io), C4 PT28A (io), C6 PT32A (TDQ33) (io), C7 PT33B (TDQ33) (io), D4 PT5B, ULC_GPLLC_FB_A (io), D5 PT27B (io), D6 PT33A (TDQS33) (io), D7 PT35A (TDQ33) (io), E5 PT27A (io), E6 PT31A (TDQ33) (io), E8 PT37A, PCLKT0_0 (TDQ33) (io), F4 PT5A, ULC_GPLLT_FB_A (io), F5 PT29A (TDQ33) (io), F6 PT31B (TDQ33) (io), F7 PT35B (TDQ33) (io), F8 PT37B, PCLKC0_0 (TDQ33) (io), G6 PT29B (TDQ33) (io)
part B pins: A8 PT38B, PCLKC1_0 (TDQ42) (io), A9 PT39B (TDQ42) (io), A10 PT42B (TDQ42) (io), A11 PT44A (TDQ42) (io), A12 PT62B, URC_GPLLC_IN_A (io), A13 PT64B, VREF2_1 (io), B8 PT38A, PCLKT1_0 (TDQ42) (io), B9 PT39A (TDQ42) (io), B10 PT42A (TDQS42) (io), B11 PT44B (TDQ42) (io), B13 PT64A, VREF1_1 (io), C9 PT41A (TDQ42) (io), C10 PT45A (TDQ42) (io), C11 PT62A, URC_GPLLT_IN_A (io), D8 PT40A (TDQ42) (io), D9 PT43A (TDQ42) (io), D10 PT43B (TDQ42) (io), D11 PT45B (TDQ42) (io), D12 PT63B, URC_GPLLC_FB_A (io), E9 PT40B (TDQ42) (io), E12 PT63A, URC_GPLLT_FB_A (io), F9 PT41B (TDQ42) (io)
part C pins: A14 PR9A (io), A15 PR9B (io), B14 PR4B, VREF2_2 (io), B15 PR21A (io), B16 PR21B (io), C13 PR4A, VREF1_2 (io), C14 PR20A (io), C15 PR23A (RDQ27) (io), C16 PR23B (RDQ27) (io), D13 PR25A (RDQ27) (io), D14 PR20B (io), D15 PR24A (RDQ27) (io), D16 PR24B (RDQ27) (io), E11 PR22A (io), E13 PR25B (RDQ27) (io), E16 PR26A (RDQ27) (io), F10 PR22B (io), F11 PR28B (RDQ27) (io), F12 PR30A, PCLKT2_0 (RDQ27) (io), F13 PR28A (RDQ27) (io), F14 PR26B (RDQ27) (io), F15 PR27A (RDQS27) (io), F16 PR27B (RDQ27) (io), G14 PR30B, PCLKC2_0 (RDQ27) (io), G15 PR29A (RDQ27) (io), G16 PR29B (RDQ27) (io)
part D pins: H13 PR33B (RDQ36) (io), H15 PR32A, PCLKT3_0 (RDQ36) (io), H16 PR32B, PCLKC3_0 (RDQ36) (io), J11 PR36A (RDQS36) (io), J12 PR35B (RDQ36) (io), J13 PR35A (RDQ36) (io), J14 PR33A (RDQ36) (io), J15 PR34A (RDQ36) (io), J16 PR34B (RDQ36) (io), K11 PR36B (RDQ36) (io), K13 PR38B (RDQ36) (io), K14 PR38A (RDQ36) (io), K15 PR37A (RDQ36) (io), K16 PR37B (RDQ36) (io), L12 PR40B (io), L13 PR40A (io), L14 PR39B (RDQ36) (io), L15 PR39A (RDQ36) (io), L16 PR41A (io), M16 PR41B (io), N13 PR60A, VREF1_3 (io), N14 PR60B, VREF2_3 (io), N15 PR42A (io), N16 PR42B (io)
part E pins: L10 PB39B (BDQ42) (io), L11 PB43A (BDQ42) (io), M9 PB39A (BDQ42) (io), M11 PB45A (BDQ42) (io), M12 PB43B (BDQ42) (io), M13 PB64B, VREF2_4 (io), N10 PB41B (BDQ42) (io), N11 PB45B (BDQ42) (io), N12 PB63A, LRC_GPLLT_FB_A (io), P10 PB41A (BDQ42) (io), P11 PB42B (BDQ42) (io), P13 PB64A, VREF1_4 (io), P14 PB63B, LRC_GPLLC_FB_A (io), P15 PB47B (io), P16 PB62B, LRC_GPLLC_IN_A (io), R10 PB38B, PCLKC4_0 (BDQ42) (io), R11 PB40B (BDQ42) (io), R13 PB44B (BDQ42) (io), R14 PB46B (BDQ42) (io), R15 PB47A (io), R16 PB62A, LRC_GPLLT_IN_A (io), T10 PB38A, PCLKT4_0 (BDQ42) (io), T11 PB40A (BDQ42) (io), T12 PB42A (BDQS42) (io), T13 PB44A (BDQ42) (io), T14 PB46A (BDQ42) (io)
part F pins: L8 PB5B, LLC_GPLLC_FB_A (io), L9 PB5A, LLC_GPLLT_FB_A (io), M8 PB33A (BDQS33) (io), N5 PB3B, VREF2_5 (io), N6 PB29B (BDQ33) (io), N7 PB31A (BDQ33) (io), N8 PB33B (BDQ33) (io), N9 PB35B (BDQ33) (io), P4 PB3A, VREF1_5 (io), P6 PB29A (BDQ33) (io), P7 PB31B (BDQ33) (io), P8 PB35A (BDQ33) (io), R4 PB30A (BDQ33) (io), R6 PB32A (BDQ33) (io), R7 PB34A (BDQ33) (io), R8 PB36A (BDQ33) (io), R9 PB37B, PCLKC5_0 (BDQ33) (io), T3 PB4A, LLC_GPLLT_IN_A (io), T4 PB4B, LLC_GPLLC_IN_A (io), T5 PB30B (BDQ33) (io), T6 PB32B (BDQ33) (io), T7 PB34B (BDQ33) (io), T8 PB37A, PCLKT5_0 (BDQ33) (io), T9 PB36B (BDQ33) (io)
part G pins: J1 PL32B, PCLKC6_0 (LDQ36) (io), J2 PL32A, PCLKT6_0 (LDQ36) (io), J4 PL33A (LDQ36) (io), K1 PL34B (LDQ36) (io), K2 PL34A (LDQ36) (io), K3 PL35B (LDQ36) (io), K4 PL33B (LDQ36) (io), L1 PL36A (LDQS36) (io), L2 PL36B (LDQ36) (io), L3 PL37B (LDQ36) (io), L4 PL37A (LDQ36) (io), L5 PL35A (LDQ36) (io), M1 PL38A (LDQ36) (io), M4 PL39A (LDQ36) (io), M5 PL39B (LDQ36) (io), M6 PL41A (io), N1 PL38B (LDQ36) (io), N2 PL40B (io), N3 PL54A (io), N4 PL41B (io), P1 PL40A (io), P2 PL42B (io), P3 PL60B, VREF2_6 (io), R1 PL42A (io), R2 PL43A (io), R3 PL60A, VREF1_6 (io), T2 PL43B (io)
part H pins: C1 PL21A (io), C2 PL20B (io), C3 PL20A (io), D1 PL21B (io), D2 PL22A (io), D3 PL4A, VREF1_7 (io), E1 PL22B (io), E4 PL4B, VREF2_7 (io), F1 PL23B (LDQ27) (io), F2 PL23A (LDQ27) (io), F3 PL26A, CSSPISN (LDQ27) (io), G1 PL25A, CFG1 (LDQ27) (io), G2 PL24A, PROGRAMN (LDQ27) (io), G3 PL26B, CSSPIN (LDQ27) (io), G4 PL24B, DONE (LDQ27) (io), H1 PL25B (LDQ27) (io), H2 PL27A (LDQS27) (io), H3 PL27B (LDQ27) (io), H4 PL30A, PCLKT7_0 (LDQ27) (io), H5 PL29A, SISPI (LDQ27) (io), H6 PL28A, CCLK (LDQ27) (io), J5 PL30B, PCLKC7_0 (LDQ27) (io), J6 PL28B, SOSPI (LDQ27) (io), K6 PL29B, INITN (LDQ27) (io)
part I pins: G11 TMS (in), G13 TDI (in), H11 TCK (in), H12 TDO (out), L6 TOE, L7 CFG0
part J pins: C5 VCCIO0 (power), C12 VCCIO1 (power), E3 VCCIO7 (power), E7 VCCIO0 (power), E10 VCCIO1 (power), E14 VCCIO2 (power), G5 VCCIO7 (power), G7 VCC (power), G8 VCCAUX (power), G9 VCC (power), G12 VCCIO2 (power), H7 VCC (power), H10 VCCAUX (power), J7 VCCAUX (power), J10 VCC (power), K5 VCCIO6 (power), K7 VCCJ (power), K8 VCC (power), K9 VCCAUX (power), K10 VCC (power), K12 VCCIO3 (power), M3 VCCIO6 (power), M7 VCCIO5 (power), M10 VCCIO4 (power), M14 VCCIO3 (power), P5 VCCIO5 (power), P12 VCCIO4 (power)
part K pins: A1 GND (power), A16 GND (power), B5 GND (power), B12 GND (power), C8 GND (power), E2 GND (power), E15 GND (power), H8 GND (power), H9 GND (power), H14 GND (power), J3 GND (power), J8 GND (power), J9 GND (power), M2 GND (power), M15 GND (power), P9 GND (power), R5 GND (power), R12 GND (power), T1 GND (power), T16 GND (power)
part L pins: G10 NC, T15 NC
part A text: BANK 0
part B text: BANK 1
part C text: BANK 2
part D text: BANK 3
part E text: BANK 4
part F text: BANK 5
part G text: BANK 6
part H text: BANK 7

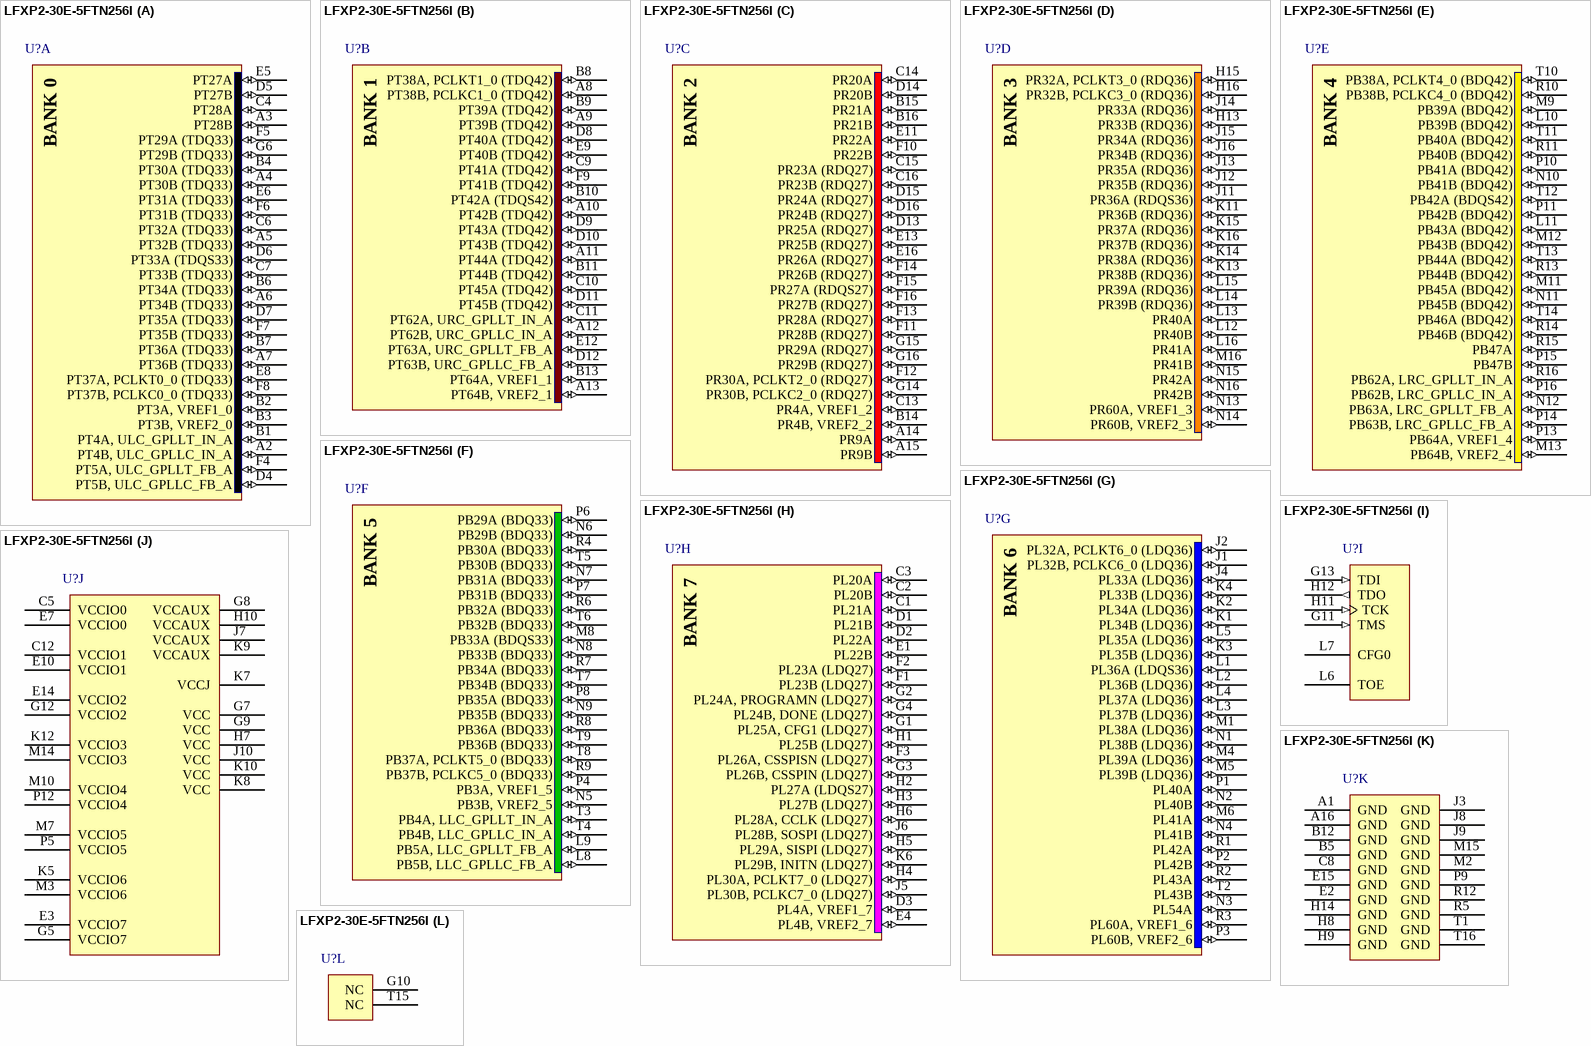
[diagram p109: symbol LFXP2-30E-5FTN256I]

## LFXP2-30E-5FTN256I
designator U?
XP2, 1.2V FPGA, 201 I/Os, 29K LUTs, 256-Pin ftBGA, Speed Grade 5, Industrial Grade, Pb-Free; Published: 18-Jun-2008; DatasheetVersion: ver01.8, Jun-2008; PackageVersion: ver01.6 Apr-2008; PackageReference: ftBGA256; Publisher: Altium Limited; PackageDescription: 256-Ball Fine Thin Ball Grid Array (ftBGA256); ComponentLink1Description: Manufacturer Link; ComponentLink1URL: http://www.latticesemi.com/products/fpga/xp2/index.cfm; ComponentLink2Description: Datasheet; ComponentLink2URL: http://www.latticesemi.com/documents/DS1009.pdf; ComponentLink3Description: Packaging Specification; ComponentLink3URL: http://www.latticesemi.com/lit/docs/package/pkg.pdf
footprint ftBGA256 (BGA, 256-Leads, Body 17x17mm, Pitch 1mm)
3D model LFXP2-30E-FT256 (256-Ball Fine Thin Ball Grid Array (ftBGA256))
part A pins: A2 PT4B, ULC_GPLLC_IN_A (io), A3 PT28B (io), A4 PT30B (TDQ33) (io), A5 PT32B (TDQ33) (io), A6 PT34B (TDQ33) (io), A7 PT36B (TDQ33) (io), B1 PT4A, ULC_GPLLT_IN_A (io), B2 PT3A, VREF1_0 (io), B3 PT3B, VREF2_0 (io), B4 PT30A (TDQ33) (io), B6 PT34A (TDQ33) (io), B7 PT36A (TDQ33) (io), C4 PT28A (io), C6 PT32A (TDQ33) (io), C7 PT33B (TDQ33) (io), D4 PT5B, ULC_GPLLC_FB_A (io), D5 PT27B (io), D6 PT33A (TDQS33) (io), D7 PT35A (TDQ33) (io), E5 PT27A (io), E6 PT31A (TDQ33) (io), E8 PT37A, PCLKT0_0 (TDQ33) (io), F4 PT5A, ULC_GPLLT_FB_A (io), F5 PT29A (TDQ33) (io), F6 PT31B (TDQ33) (io), F7 PT35B (TDQ33) (io), F8 PT37B, PCLKC0_0 (TDQ33) (io), G6 PT29B (TDQ33) (io)
part B pins: A8 PT38B, PCLKC1_0 (TDQ42) (io), A9 PT39B (TDQ42) (io), A10 PT42B (TDQ42) (io), A11 PT44A (TDQ42) (io), A12 PT62B, URC_GPLLC_IN_A (io), A13 PT64B, VREF2_1 (io), B8 PT38A, PCLKT1_0 (TDQ42) (io), B9 PT39A (TDQ42) (io), B10 PT42A (TDQS42) (io), B11 PT44B (TDQ42) (io), B13 PT64A, VREF1_1 (io), C9 PT41A (TDQ42) (io), C10 PT45A (TDQ42) (io), C11 PT62A, URC_GPLLT_IN_A (io), D8 PT40A (TDQ42) (io), D9 PT43A (TDQ42) (io), D10 PT43B (TDQ42) (io), D11 PT45B (TDQ42) (io), D12 PT63B, URC_GPLLC_FB_A (io), E9 PT40B (TDQ42) (io), E12 PT63A, URC_GPLLT_FB_A (io), F9 PT41B (TDQ42) (io)
part C pins: A14 PR9A (io), A15 PR9B (io), B14 PR4B, VREF2_2 (io), B15 PR21A (io), B16 PR21B (io), C13 PR4A, VREF1_2 (io), C14 PR20A (io), C15 PR23A (RDQ27) (io), C16 PR23B (RDQ27) (io), D13 PR25A (RDQ27) (io), D14 PR20B (io), D15 PR24A (RDQ27) (io), D16 PR24B (RDQ27) (io), E11 PR22A (io), E13 PR25B (RDQ27) (io), E16 PR26A (RDQ27) (io), F10 PR22B (io), F11 PR28B (RDQ27) (io), F12 PR30A, PCLKT2_0 (RDQ27) (io), F13 PR28A (RDQ27) (io), F14 PR26B (RDQ27) (io), F15 PR27A (RDQS27) (io), F16 PR27B (RDQ27) (io), G14 PR30B, PCLKC2_0 (RDQ27) (io), G15 PR29A (RDQ27) (io), G16 PR29B (RDQ27) (io)
part D pins: H13 PR33B (RDQ36) (io), H15 PR32A, PCLKT3_0 (RDQ36) (io), H16 PR32B, PCLKC3_0 (RDQ36) (io), J11 PR36A (RDQS36) (io), J12 PR35B (RDQ36) (io), J13 PR35A (RDQ36) (io), J14 PR33A (RDQ36) (io), J15 PR34A (RDQ36) (io), J16 PR34B (RDQ36) (io), K11 PR36B (RDQ36) (io), K13 PR38B (RDQ36) (io), K14 PR38A (RDQ36) (io), K15 PR37A (RDQ36) (io), K16 PR37B (RDQ36) (io), L12 PR40B (io), L13 PR40A (io), L14 PR39B (RDQ36) (io), L15 PR39A (RDQ36) (io), L16 PR41A (io), M16 PR41B (io), N13 PR60A, VREF1_3 (io), N14 PR60B, VREF2_3 (io), N15 PR42A (io), N16 PR42B (io)
part E pins: L10 PB39B (BDQ42) (io), L11 PB43A (BDQ42) (io), M9 PB39A (BDQ42) (io), M11 PB45A (BDQ42) (io), M12 PB43B (BDQ42) (io), M13 PB64B, VREF2_4 (io), N10 PB41B (BDQ42) (io), N11 PB45B (BDQ42) (io), N12 PB63A, LRC_GPLLT_FB_A (io), P10 PB41A (BDQ42) (io), P11 PB42B (BDQ42) (io), P13 PB64A, VREF1_4 (io), P14 PB63B, LRC_GPLLC_FB_A (io), P15 PB47B (io), P16 PB62B, LRC_GPLLC_IN_A (io), R10 PB38B, PCLKC4_0 (BDQ42) (io), R11 PB40B (BDQ42) (io), R13 PB44B (BDQ42) (io), R14 PB46B (BDQ42) (io), R15 PB47A (io), R16 PB62A, LRC_GPLLT_IN_A (io), T10 PB38A, PCLKT4_0 (BDQ42) (io), T11 PB40A (BDQ42) (io), T12 PB42A (BDQS42) (io), T13 PB44A (BDQ42) (io), T14 PB46A (BDQ42) (io)
part F pins: L8 PB5B, LLC_GPLLC_FB_A (io), L9 PB5A, LLC_GPLLT_FB_A (io), M8 PB33A (BDQS33) (io), N5 PB3B, VREF2_5 (io), N6 PB29B (BDQ33) (io), N7 PB31A (BDQ33) (io), N8 PB33B (BDQ33) (io), N9 PB35B (BDQ33) (io), P4 PB3A, VREF1_5 (io), P6 PB29A (BDQ33) (io), P7 PB31B (BDQ33) (io), P8 PB35A (BDQ33) (io), R4 PB30A (BDQ33) (io), R6 PB32A (BDQ33) (io), R7 PB34A (BDQ33) (io), R8 PB36A (BDQ33) (io), R9 PB37B, PCLKC5_0 (BDQ33) (io), T3 PB4A, LLC_GPLLT_IN_A (io), T4 PB4B, LLC_GPLLC_IN_A (io), T5 PB30B (BDQ33) (io), T6 PB32B (BDQ33) (io), T7 PB34B (BDQ33) (io), T8 PB37A, PCLKT5_0 (BDQ33) (io), T9 PB36B (BDQ33) (io)
part G pins: J1 PL32B, PCLKC6_0 (LDQ36) (io), J2 PL32A, PCLKT6_0 (LDQ36) (io), J4 PL33A (LDQ36) (io), K1 PL34B (LDQ36) (io), K2 PL34A (LDQ36) (io), K3 PL35B (LDQ36) (io), K4 PL33B (LDQ36) (io), L1 PL36A (LDQS36) (io), L2 PL36B (LDQ36) (io), L3 PL37B (LDQ36) (io), L4 PL37A (LDQ36) (io), L5 PL35A (LDQ36) (io), M1 PL38A (LDQ36) (io), M4 PL39A (LDQ36) (io), M5 PL39B (LDQ36) (io), M6 PL41A (io), N1 PL38B (LDQ36) (io), N2 PL40B (io), N3 PL54A (io), N4 PL41B (io), P1 PL40A (io), P2 PL42B (io), P3 PL60B, VREF2_6 (io), R1 PL42A (io), R2 PL43A (io), R3 PL60A, VREF1_6 (io), T2 PL43B (io)
part H pins: C1 PL21A (io), C2 PL20B (io), C3 PL20A (io), D1 PL21B (io), D2 PL22A (io), D3 PL4A, VREF1_7 (io), E1 PL22B (io), E4 PL4B, VREF2_7 (io), F1 PL23B (LDQ27) (io), F2 PL23A (LDQ27) (io), F3 PL26A, CSSPISN (LDQ27) (io), G1 PL25A, CFG1 (LDQ27) (io), G2 PL24A, PROGRAMN (LDQ27) (io), G3 PL26B, CSSPIN (LDQ27) (io), G4 PL24B, DONE (LDQ27) (io), H1 PL25B (LDQ27) (io), H2 PL27A (LDQS27) (io), H3 PL27B (LDQ27) (io), H4 PL30A, PCLKT7_0 (LDQ27) (io), H5 PL29A, SISPI (LDQ27) (io), H6 PL28A, CCLK (LDQ27) (io), J5 PL30B, PCLKC7_0 (LDQ27) (io), J6 PL28B, SOSPI (LDQ27) (io), K6 PL29B, INITN (LDQ27) (io)
part I pins: G11 TMS (in), G13 TDI (in), H11 TCK (in), H12 TDO (out), L6 TOE, L7 CFG0
part J pins: C5 VCCIO0 (power), C12 VCCIO1 (power), E3 VCCIO7 (power), E7 VCCIO0 (power), E10 VCCIO1 (power), E14 VCCIO2 (power), G5 VCCIO7 (power), G7 VCC (power), G8 VCCAUX (power), G9 VCC (power), G12 VCCIO2 (power), H7 VCC (power), H10 VCCAUX (power), J7 VCCAUX (power), J10 VCC (power), K5 VCCIO6 (power), K7 VCCJ (power), K8 VCC (power), K9 VCCAUX (power), K10 VCC (power), K12 VCCIO3 (power), M3 VCCIO6 (power), M7 VCCIO5 (power), M10 VCCIO4 (power), M14 VCCIO3 (power), P5 VCCIO5 (power), P12 VCCIO4 (power)
part K pins: A1 GND (power), A16 GND (power), B5 GND (power), B12 GND (power), C8 GND (power), E2 GND (power), E15 GND (power), H8 GND (power), H9 GND (power), H14 GND (power), J3 GND (power), J8 GND (power), J9 GND (power), M2 GND (power), M15 GND (power), P9 GND (power), R5 GND (power), R12 GND (power), T1 GND (power), T16 GND (power)
part L pins: G10 NC, T15 NC
part A text: BANK 0
part B text: BANK 1
part C text: BANK 2
part D text: BANK 3
part E text: BANK 4
part F text: BANK 5
part G text: BANK 6
part H text: BANK 7

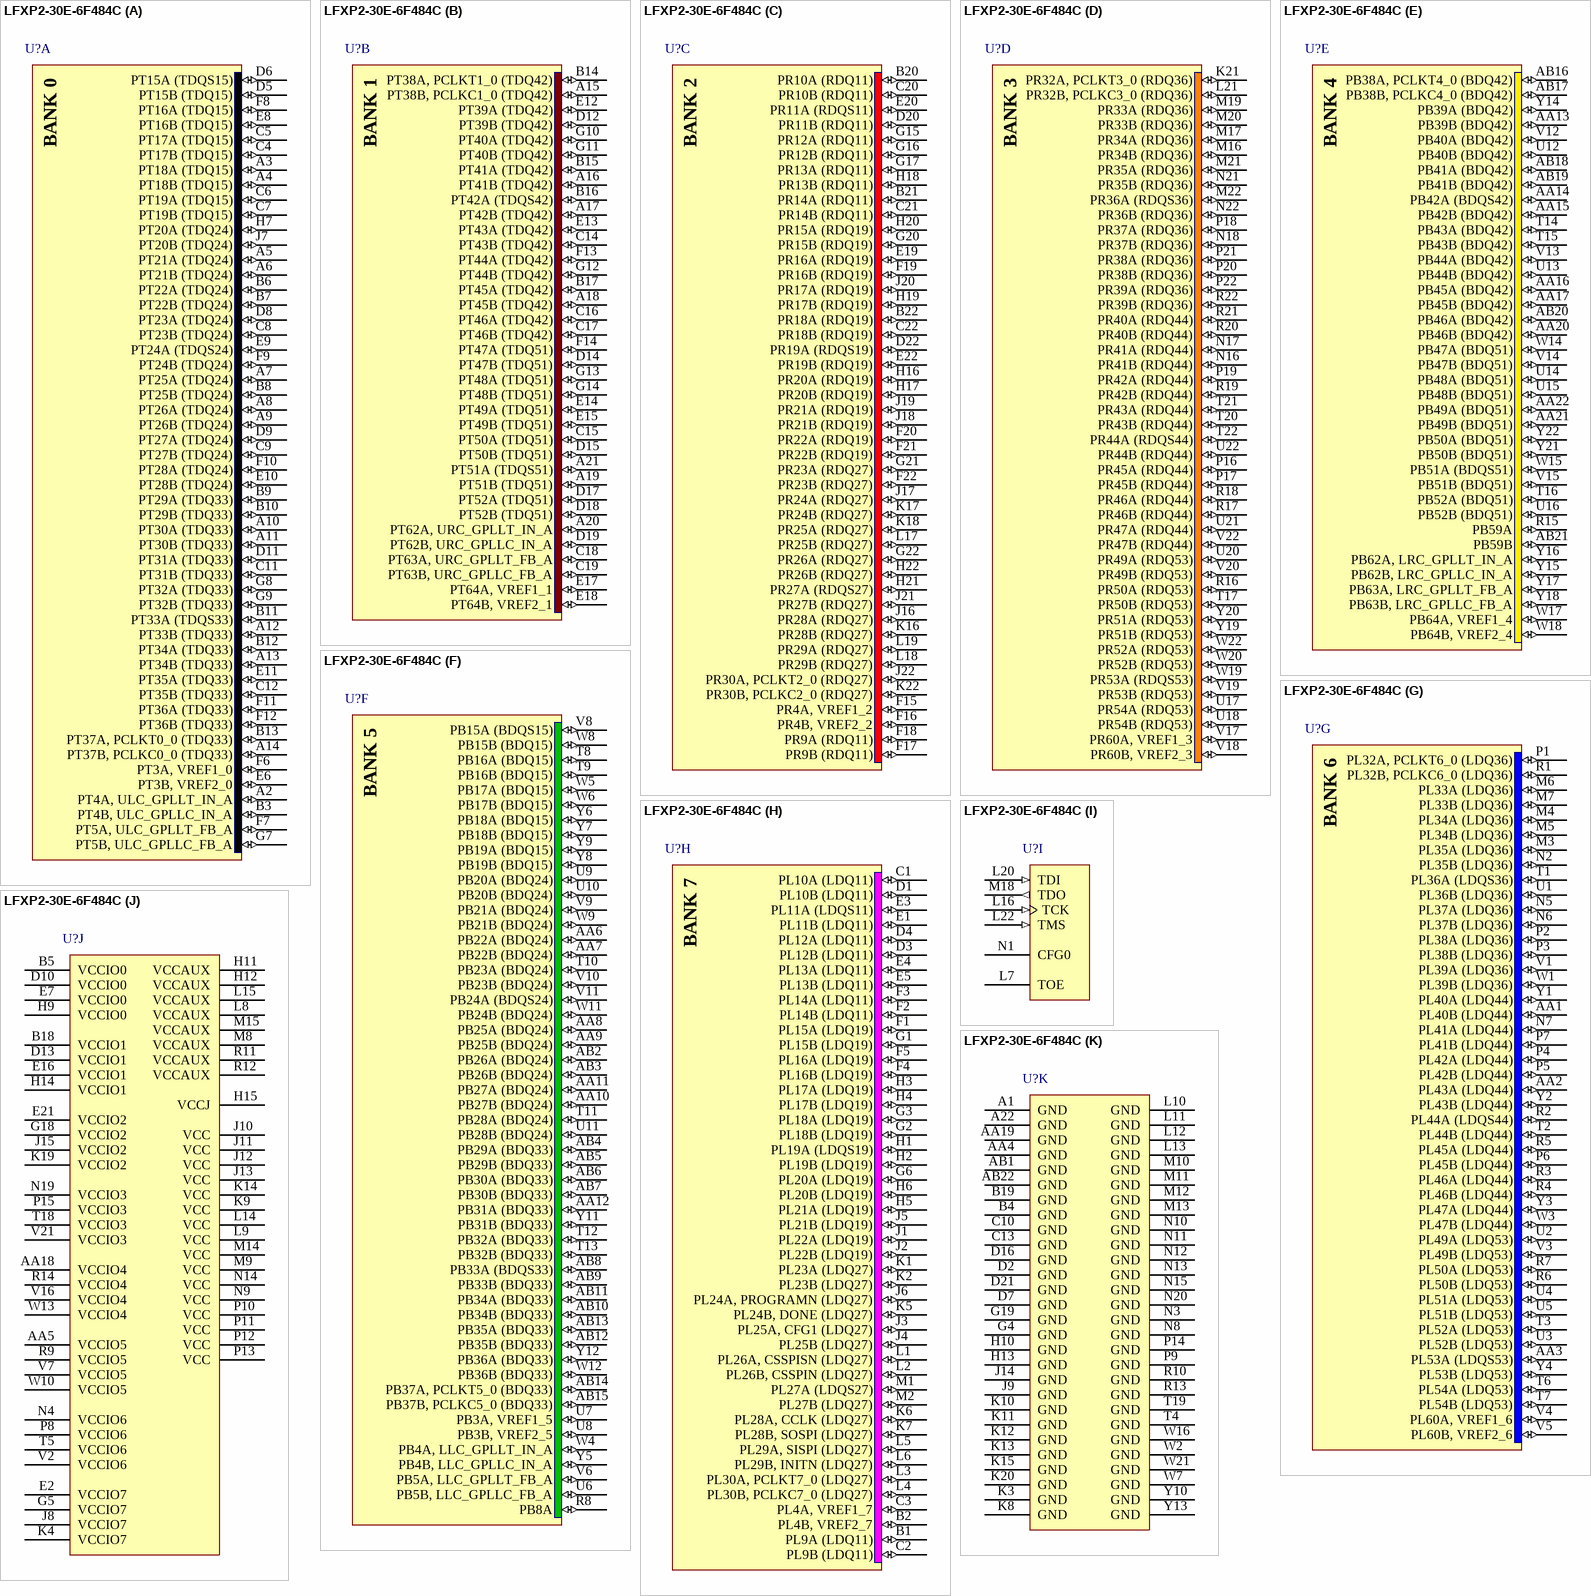
[diagram p110: symbol LFXP2-30E-6F484C]

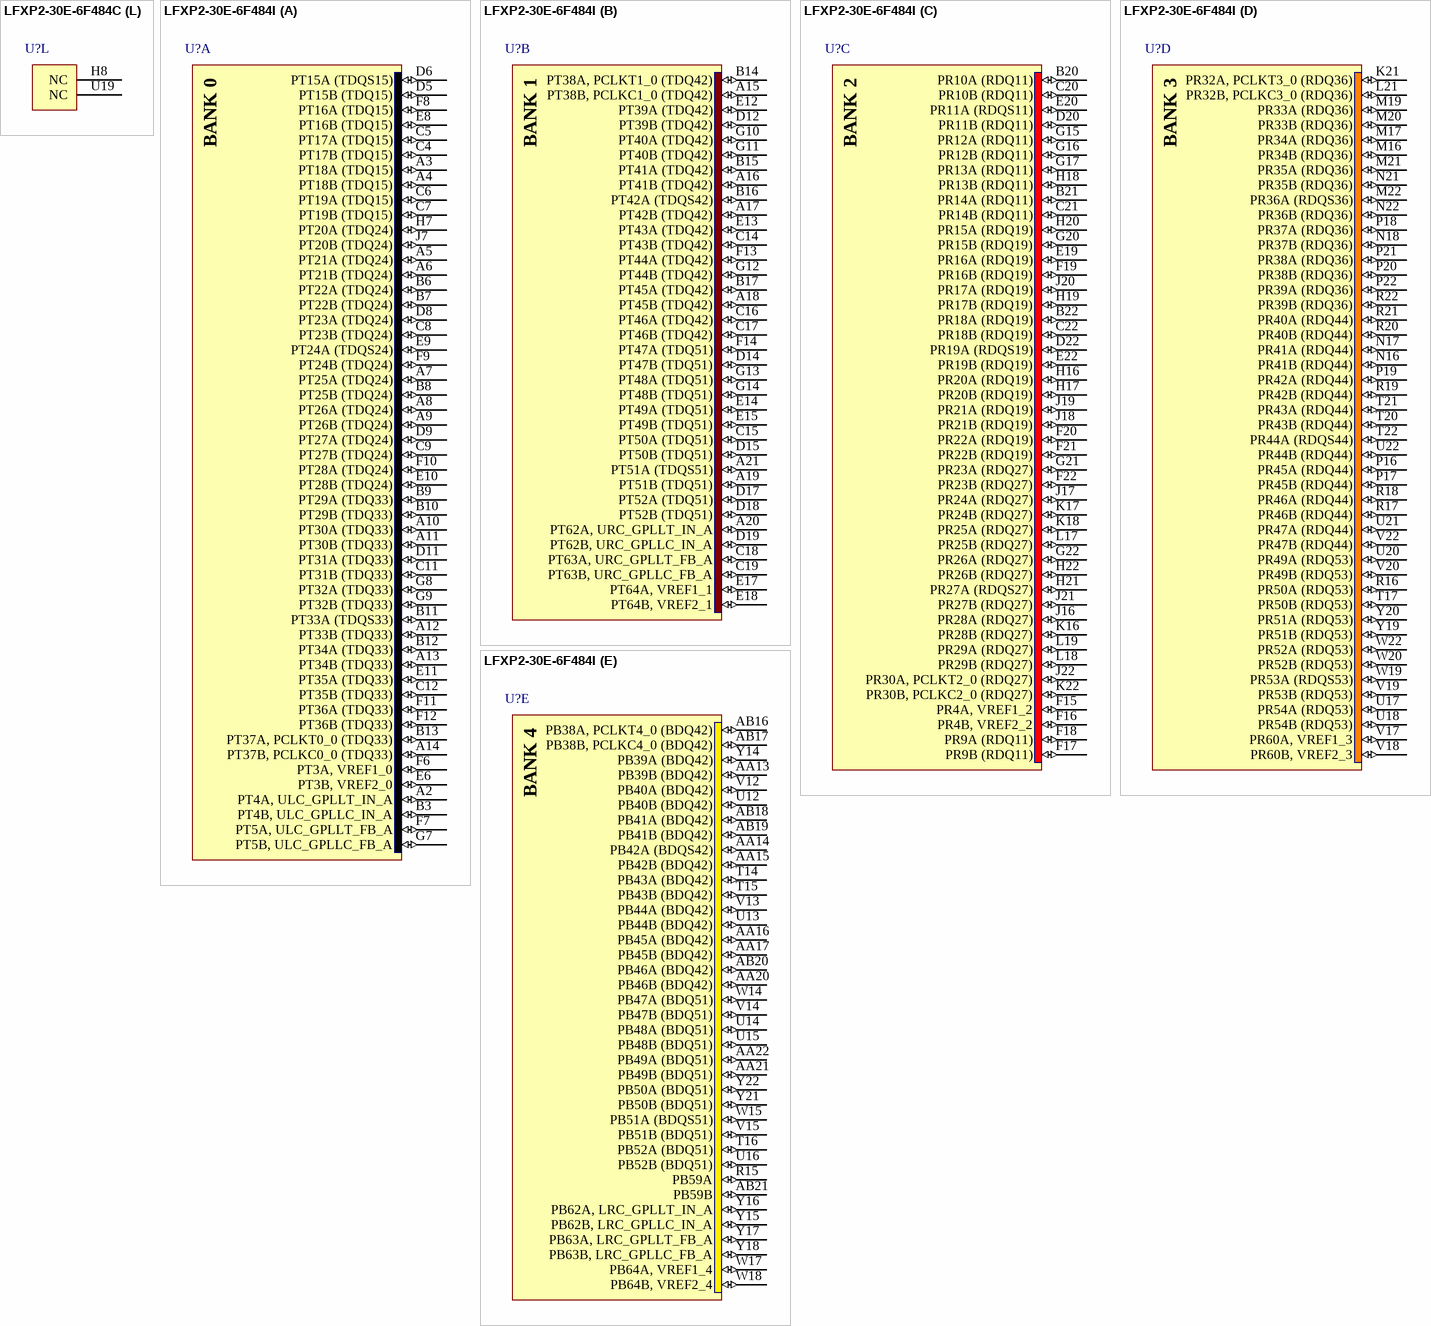
[diagram p111: symbols LFXP2-30E-6F484C to LFXP2-30E-6F484I]